# Altium integrated library Cypress Peripheral Bus Interface Controller.IntLib: 40 symbols (part 2 of 3)
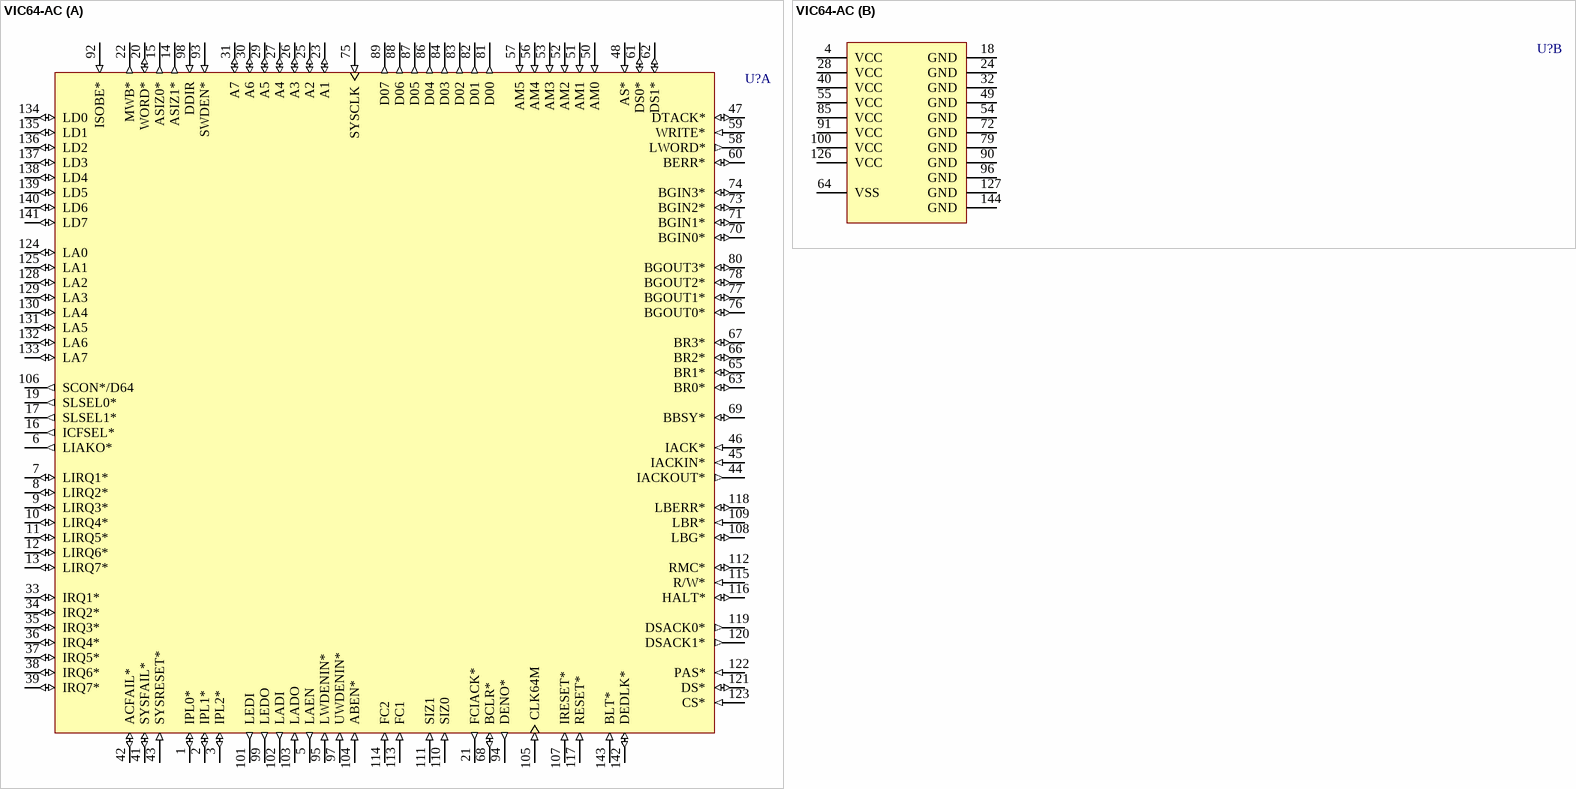
[diagram p20: symbol VIC64-AC]

## VIC64-AC
designator U?
VMEbus Interface Controller with D64 Functionality; Published: 11-Dec-2002; LatestRevisionDate: 13-Apr-2006; LatestRevisionNote: IPC-7351 Footprint Added.; DatasheetVersion: 22-Jul-1997; PackageVersion: Jul-1997; PackageReference: A144; Publisher: Altium Limited; PackageDescription: 144-Pin Thin Quad Flat Pack 0.5 mm Pitch; ComponentLink1Description: Manufacturer Link; ComponentLink1URL: http://www.cypress.com/
footprint A144_N (Thin QFP, 144-Leads, Body 20x20mm, Pitch 0.5mm, IPC Medium Density)
footprint A144_L (Thin QFP, 144-Leads, Body 20x20mm, Pitch 0.5mm, IPC High Density)
footprint A144_M (Thin QFP, 144-Leads, Body 20x20mm, Pitch 0.5mm, IPC Low Density)
3D model VIC64-A144 (144-Pin Thin Quad Flat Pack 0.5 mm Pitch)
part A pins: 1 IPL0* (io), 2 IPL1* (io), 3 IPL2* (io), 5 LAEN (out), 6 LIAKO* (out), 7 LIRQ1* (io), 8 LIRQ2* (io), 9 LIRQ3* (io), 10 LIRQ4* (io), 11 LIRQ5* (io), 12 LIRQ6* (io), 13 LIRQ7* (io), 14 ASIZ1* (out), 15 ASIZ0* (out), 16 ICFSEL* (out), 17 SLSEL1* (out), 19 SLSEL0* (out), 20 WORD* (io), 21 FCIACK* (out), 22 MWB* (out), 23 A1 (io), 25 A2 (io), 26 A3 (io), 27 A4 (io), 29 A5 (io), 30 A6 (io), 31 A7 (io), 33 IRQ1* (io), 34 IRQ2* (io), 35 IRQ3* (io), 36 IRQ4* (io), 37 IRQ5* (io), 38 IRQ6* (io), 39 IRQ7* (io), 41 SYSFAIL* (io), 42 ACFAIL* (io), 43 SYSRESET* (in), 44 IACKOUT* (out), 45 IACKIN* (in), 46 IACK* (in), 47 DTACK* (io), 48 AS* (in), 50 AM0 (in), 51 AM1 (in), 52 AM2 (in), 53 AM3 (in), 56 AM4 (in), 57 AM5 (in), 58 LWORD* (out), 59 WRITE* (in), 60 BERR* (io), 61 DS0* (io), 62 DS1* (io), 63 BR0* (io), 65 BR1* (io), 66 BR2* (io), 67 BR3* (io), 68 BCLR* (io), 69 BBSY* (io), 70 BGIN0* (io), 71 BGIN1* (io), 73 BGIN2* (io), 74 BGIN3* (io), 75 SYSCLK (in), 76 BGOUT0* (io), 77 BGOUT1* (io), 78 BGOUT2* (io), 80 BGOUT3* (io), 81 D00 (out), 82 D01 (out), 83 D02 (out), 84 D03 (out), 86 D04 (out), 87 D05 (out), 88 D06 (out), 89 D07 (out), 92 ISOBE* (in), 93 SWDEN* (in), 94 DENO* (out), 95 LWDENIN* (in), 97 UWDENIN* (in), 98 DDIR (in), 99 LEDO (out), 101 LEDI (out), 102 LADI (out), 103 LADO (in), 104 ABEN* (in), 105 CLK64M (in), 106 SCON*/D64 (out), 107 IRESET* (in), 108 LBG* (io), 109 LBR* (in), 110 SIZ0 (in), 111 SIZ1 (in), 112 RMC* (io), 113 FC1 (in), 114 FC2 (in), 115 R/W* (in), 116 HALT* (io), 117 RESET* (in), 118 LBERR* (io), 119 DSACK0* (out), 120 DSACK1* (out), 121 DS* (io), 122 PAS* (in), 123 CS* (in), 124 LA0 (io), 125 LA1 (io), 128 LA2 (io), 129 LA3 (io), 130 LA4 (io), 131 LA5 (io), 132 LA6 (io), 133 LA7 (io), 134 LD0 (io), 135 LD1 (io), 136 LD2 (io), 137 LD3 (io), 138 LD4 (io), 139 LD5 (io), 140 LD6 (io), 141 LD7 (io), 142 DEDLK* (io), 143 BLT* (in)
part B pins: 4 VCC (power), 18 GND (power), 24 GND (power), 28 VCC (power), 32 GND (power), 40 VCC (power), 49 GND (power), 54 GND (power), 55 VCC (power), 64 VSS (power), 72 GND (power), 79 GND (power), 85 VCC (power), 90 GND (power), 91 VCC (power), 96 GND (power), 100 VCC (power), 126 VCC (power), 127 GND (power), 144 GND (power)

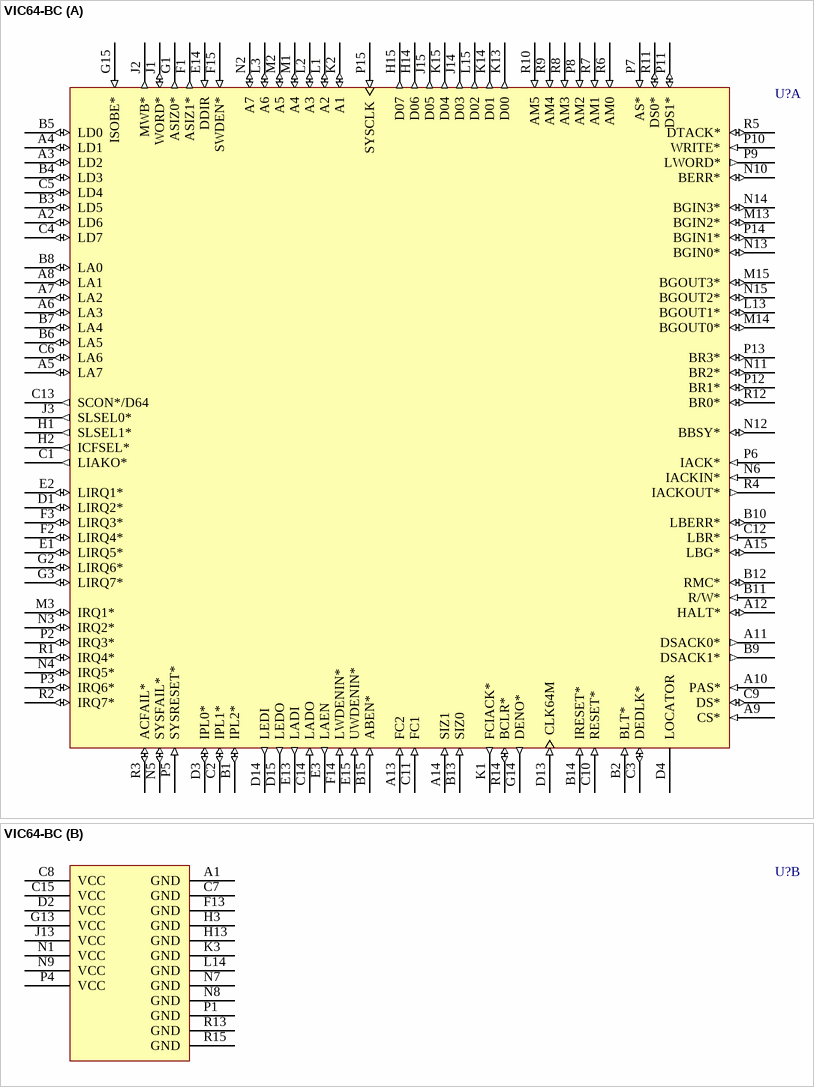
[diagram p7: symbol VIC64-BC]

## VIC64-BC
designator U?
VMEbus Interface Controller with D64 Functionality; Published: 11-Dec-2002; LatestRevisionDate: 04-Mar-2005; LatestRevisionNote: Stylized 3D Model Added.; DatasheetVersion: 22-Jul-1997; PackageVersion: Jul-1997; PackageReference: B144; Publisher: Altium Limited; PackageDescription: 145-Pin Pin Grid Array 2.54 mm Pitch; ComponentLink1Description: Manufacturer Link; ComponentLink1URL: http://www.cypress.com/
footprint B144 (PGA, 145-Leads, Body 38.8x38.8mm, Pitch 2.54mm)
3D model VIC64-B144 (145-Pin Pin Grid Array 2.54 mm Pitch)
part A pins: A2 LD6 (io), A3 LD2 (io), A4 LD1 (io), A5 LA7 (io), A6 LA3 (io), A7 LA2 (io), A8 LA1 (io), A9 CS* (in), A10 PAS* (in), A11 DSACK0* (out), A12 HALT* (io), A13 FC2 (in), A14 SIZ1 (in), A15 LBG* (io), B1 IPL2* (io), B2 BLT* (in), B3 LD5 (io), B4 LD3 (io), B5 LD0 (io), B6 LA5 (io), B7 LA4 (io), B8 LA0 (io), B9 DSACK1* (out), B10 LBERR* (io), B11 R/W* (in), B12 RMC* (io), B13 SIZ0 (in), B14 IRESET* (in), B15 ABEN* (in), C1 LIAKO* (out), C2 IPL1* (io), C3 DEDLK* (io), C4 LD7 (io), C5 LD4 (io), C6 LA6 (io), C9 DS* (io), C10 RESET* (in), C11 FC1 (in), C12 LBR* (in), C13 SCON*/D64 (out), C14 LADO (in), D1 LIRQ2* (io), D3 IPL0* (io), D4 LOCATOR, D13 CLK64M (in), D14 LEDI (out), D15 LEDO (out), E1 LIRQ5* (io), E2 LIRQ1* (io), E3 LAEN (out), E13 LADI (out), E14 DDIR (in), E15 UWDENIN* (in), F1 ASIZ1* (out), F2 LIRQ4* (io), F3 LIRQ3* (io), F14 LWDENIN* (in), F15 SWDEN* (in), G1 ASIZ0* (out), G2 LIRQ6* (io), G3 LIRQ7* (io), G14 DENO* (out), G15 ISOBE* (in), H1 SLSEL1* (out), H2 ICFSEL* (out), H14 D06 (out), H15 D07 (out), J1 WORD* (io), J2 MWB* (out), J3 SLSEL0* (out), J14 D03 (out), J15 D05 (out), K1 FCIACK* (out), K2 A1 (io), K13 D00 (out), K14 D01 (out), K15 D04 (out), L1 A2 (io), L2 A3 (io), L3 A6 (io), L13 BGOUT1* (io), L15 D02 (out), M1 A4 (io), M2 A5 (io), M3 IRQ1* (io), M13 BGIN2* (io), M14 BGOUT0* (io), M15 BGOUT3* (io), N2 A7 (io), N3 IRQ2* (io), N4 IRQ5* (io), N5 SYSFAIL* (io), N6 IACKIN* (in), N10 BERR* (io), N11 BR2* (io), N12 BBSY* (io), N13 BGIN0* (io), N14 BGIN3* (io), N15 BGOUT2* (io), P2 IRQ3* (io), P3 IRQ6* (io), P5 SYSRESET* (in), P6 IACK* (in), P7 AS* (in), P8 AM2 (in), P9 LWORD* (out), P10 WRITE* (in), P11 DS1* (io), P12 BR1* (io), P13 BR3* (io), P14 BGIN1* (io), P15 SYSCLK (in), R1 IRQ4* (io), R2 IRQ7* (io), R3 ACFAIL* (io), R4 IACKOUT* (out), R5 DTACK* (io), R6 AM0 (in), R7 AM1 (in), R8 AM3 (in), R9 AM4 (in), R10 AM5 (in), R11 DS0* (io), R12 BR0* (io), R14 BCLR* (io)
part B pins: A1 GND (power), C7 GND (power), C8 VCC (power), C15 VCC (power), D2 VCC (power), F13 GND (power), G13 VCC (power), H3 GND (power), H13 GND (power), J13 VCC (power), K3 GND (power), L14 GND (power), N1 VCC (power), N7 GND (power), N8 GND (power), N9 VCC (power), P1 GND (power), P4 VCC (power), R13 GND (power), R15 GND (power)

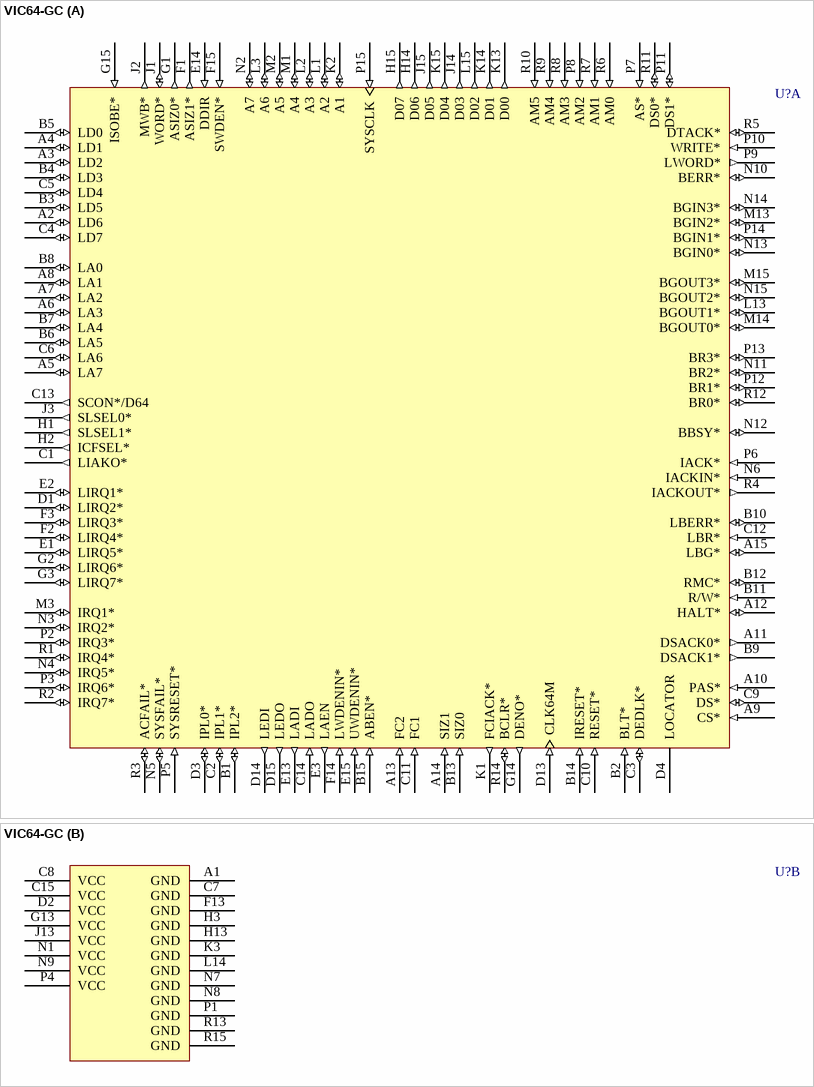
[diagram p8: symbol VIC64-GC]

## VIC64-GC
designator U?
VMEbus Interface Controller with D64 Functionality; Published: 11-Dec-2002; LatestRevisionDate: 04-Mar-2005; LatestRevisionNote: Stylized 3D Model Added.; DatasheetVersion: 22-Jul-1997; PackageVersion: Jul-1997; PackageReference: G145; Publisher: Altium Limited; PackageDescription: 145-Pin Pin Grid Array 2.54 mm Pitch; ComponentLink1Description: Manufacturer Link; ComponentLink1URL: http://www.cypress.com/
footprint G145 (PGA, 145-Leads, Body 40x40mm, Pitch 2.54mm)
3D model VIC64-G145 (145-Pin Pin Grid Array 2.54 mm Pitch)
part A pins: A2 LD6 (io), A3 LD2 (io), A4 LD1 (io), A5 LA7 (io), A6 LA3 (io), A7 LA2 (io), A8 LA1 (io), A9 CS* (in), A10 PAS* (in), A11 DSACK0* (out), A12 HALT* (io), A13 FC2 (in), A14 SIZ1 (in), A15 LBG* (io), B1 IPL2* (io), B2 BLT* (in), B3 LD5 (io), B4 LD3 (io), B5 LD0 (io), B6 LA5 (io), B7 LA4 (io), B8 LA0 (io), B9 DSACK1* (out), B10 LBERR* (io), B11 R/W* (in), B12 RMC* (io), B13 SIZ0 (in), B14 IRESET* (in), B15 ABEN* (in), C1 LIAKO* (out), C2 IPL1* (io), C3 DEDLK* (io), C4 LD7 (io), C5 LD4 (io), C6 LA6 (io), C9 DS* (io), C10 RESET* (in), C11 FC1 (in), C12 LBR* (in), C13 SCON*/D64 (out), C14 LADO (in), D1 LIRQ2* (io), D3 IPL0* (io), D4 LOCATOR, D13 CLK64M (in), D14 LEDI (out), D15 LEDO (out), E1 LIRQ5* (io), E2 LIRQ1* (io), E3 LAEN (out), E13 LADI (out), E14 DDIR (in), E15 UWDENIN* (in), F1 ASIZ1* (out), F2 LIRQ4* (io), F3 LIRQ3* (io), F14 LWDENIN* (in), F15 SWDEN* (in), G1 ASIZ0* (out), G2 LIRQ6* (io), G3 LIRQ7* (io), G14 DENO* (out), G15 ISOBE* (in), H1 SLSEL1* (out), H2 ICFSEL* (out), H14 D06 (out), H15 D07 (out), J1 WORD* (io), J2 MWB* (out), J3 SLSEL0* (out), J14 D03 (out), J15 D05 (out), K1 FCIACK* (out), K2 A1 (io), K13 D00 (out), K14 D01 (out), K15 D04 (out), L1 A2 (io), L2 A3 (io), L3 A6 (io), L13 BGOUT1* (io), L15 D02 (out), M1 A4 (io), M2 A5 (io), M3 IRQ1* (io), M13 BGIN2* (io), M14 BGOUT0* (io), M15 BGOUT3* (io), N2 A7 (io), N3 IRQ2* (io), N4 IRQ5* (io), N5 SYSFAIL* (io), N6 IACKIN* (in), N10 BERR* (io), N11 BR2* (io), N12 BBSY* (io), N13 BGIN0* (io), N14 BGIN3* (io), N15 BGOUT2* (io), P2 IRQ3* (io), P3 IRQ6* (io), P5 SYSRESET* (in), P6 IACK* (in), P7 AS* (in), P8 AM2 (in), P9 LWORD* (out), P10 WRITE* (in), P11 DS1* (io), P12 BR1* (io), P13 BR3* (io), P14 BGIN1* (io), P15 SYSCLK (in), R1 IRQ4* (io), R2 IRQ7* (io), R3 ACFAIL* (io), R4 IACKOUT* (out), R5 DTACK* (io), R6 AM0 (in), R7 AM1 (in), R8 AM3 (in), R9 AM4 (in), R10 AM5 (in), R11 DS0* (io), R12 BR0* (io), R14 BCLR* (io)
part B pins: A1 GND (power), C7 GND (power), C8 VCC (power), C15 VCC (power), D2 VCC (power), F13 GND (power), G13 VCC (power), H3 GND (power), H13 GND (power), J13 VCC (power), K3 GND (power), L14 GND (power), N1 VCC (power), N7 GND (power), N8 GND (power), N9 VCC (power), P1 GND (power), P4 VCC (power), R13 GND (power), R15 GND (power)

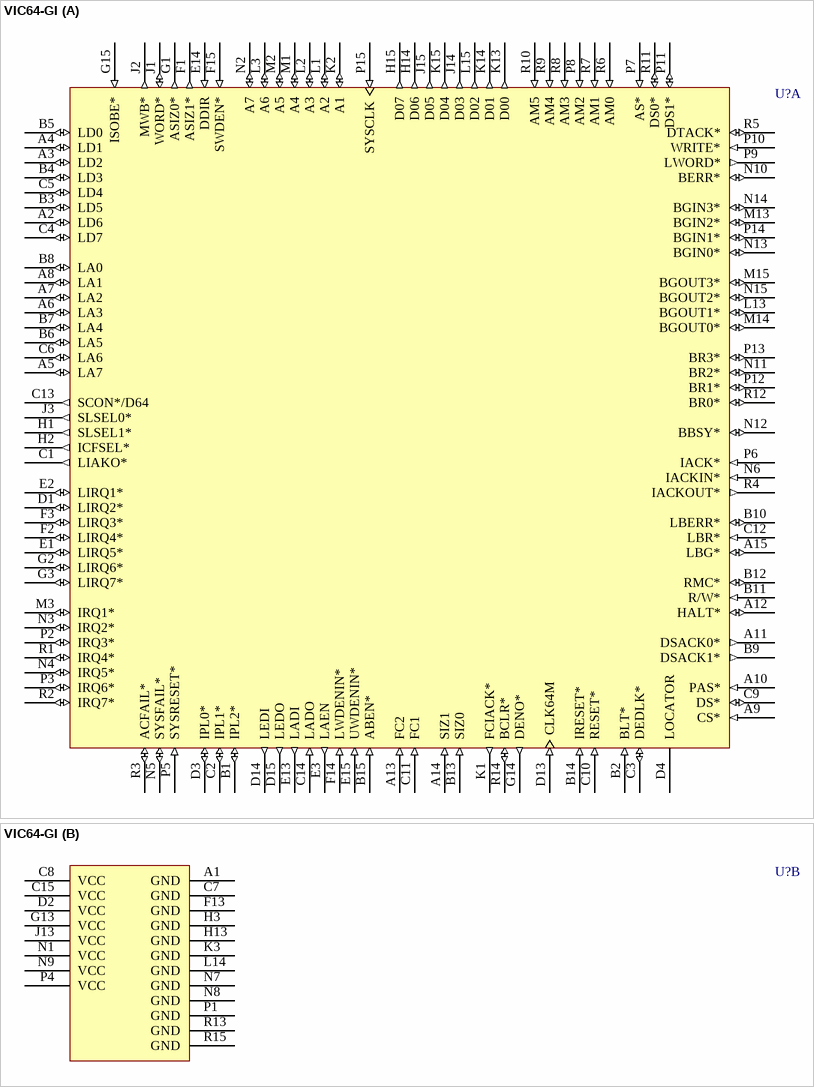
[diagram p9: symbol VIC64-GI]

## VIC64-GI
designator U?
VMEbus Interface Controller with D64 Functionality; Published: 11-Dec-2002; LatestRevisionDate: 04-Mar-2005; LatestRevisionNote: Stylized 3D Model Added.; DatasheetVersion: 22-Jul-1997; PackageVersion: Jul-1997; PackageReference: G145; Publisher: Altium Limited; PackageDescription: 145-Pin Pin Grid Array 2.54 mm Pitch; ComponentLink1Description: Manufacturer Link; ComponentLink1URL: http://www.cypress.com/
footprint G145 (PGA, 145-Leads, Body 40x40mm, Pitch 2.54mm)
3D model VIC64-G145 (145-Pin Pin Grid Array 2.54 mm Pitch)
part A pins: A2 LD6 (io), A3 LD2 (io), A4 LD1 (io), A5 LA7 (io), A6 LA3 (io), A7 LA2 (io), A8 LA1 (io), A9 CS* (in), A10 PAS* (in), A11 DSACK0* (out), A12 HALT* (io), A13 FC2 (in), A14 SIZ1 (in), A15 LBG* (io), B1 IPL2* (io), B2 BLT* (in), B3 LD5 (io), B4 LD3 (io), B5 LD0 (io), B6 LA5 (io), B7 LA4 (io), B8 LA0 (io), B9 DSACK1* (out), B10 LBERR* (io), B11 R/W* (in), B12 RMC* (io), B13 SIZ0 (in), B14 IRESET* (in), B15 ABEN* (in), C1 LIAKO* (out), C2 IPL1* (io), C3 DEDLK* (io), C4 LD7 (io), C5 LD4 (io), C6 LA6 (io), C9 DS* (io), C10 RESET* (in), C11 FC1 (in), C12 LBR* (in), C13 SCON*/D64 (out), C14 LADO (in), D1 LIRQ2* (io), D3 IPL0* (io), D4 LOCATOR, D13 CLK64M (in), D14 LEDI (out), D15 LEDO (out), E1 LIRQ5* (io), E2 LIRQ1* (io), E3 LAEN (out), E13 LADI (out), E14 DDIR (in), E15 UWDENIN* (in), F1 ASIZ1* (out), F2 LIRQ4* (io), F3 LIRQ3* (io), F14 LWDENIN* (in), F15 SWDEN* (in), G1 ASIZ0* (out), G2 LIRQ6* (io), G3 LIRQ7* (io), G14 DENO* (out), G15 ISOBE* (in), H1 SLSEL1* (out), H2 ICFSEL* (out), H14 D06 (out), H15 D07 (out), J1 WORD* (io), J2 MWB* (out), J3 SLSEL0* (out), J14 D03 (out), J15 D05 (out), K1 FCIACK* (out), K2 A1 (io), K13 D00 (out), K14 D01 (out), K15 D04 (out), L1 A2 (io), L2 A3 (io), L3 A6 (io), L13 BGOUT1* (io), L15 D02 (out), M1 A4 (io), M2 A5 (io), M3 IRQ1* (io), M13 BGIN2* (io), M14 BGOUT0* (io), M15 BGOUT3* (io), N2 A7 (io), N3 IRQ2* (io), N4 IRQ5* (io), N5 SYSFAIL* (io), N6 IACKIN* (in), N10 BERR* (io), N11 BR2* (io), N12 BBSY* (io), N13 BGIN0* (io), N14 BGIN3* (io), N15 BGOUT2* (io), P2 IRQ3* (io), P3 IRQ6* (io), P5 SYSRESET* (in), P6 IACK* (in), P7 AS* (in), P8 AM2 (in), P9 LWORD* (out), P10 WRITE* (in), P11 DS1* (io), P12 BR1* (io), P13 BR3* (io), P14 BGIN1* (io), P15 SYSCLK (in), R1 IRQ4* (io), R2 IRQ7* (io), R3 ACFAIL* (io), R4 IACKOUT* (out), R5 DTACK* (io), R6 AM0 (in), R7 AM1 (in), R8 AM3 (in), R9 AM4 (in), R10 AM5 (in), R11 DS0* (io), R12 BR0* (io), R14 BCLR* (io)
part B pins: A1 GND (power), C7 GND (power), C8 VCC (power), C15 VCC (power), D2 VCC (power), F13 GND (power), G13 VCC (power), H3 GND (power), H13 GND (power), J13 VCC (power), K3 GND (power), L14 GND (power), N1 VCC (power), N7 GND (power), N8 GND (power), N9 VCC (power), P1 GND (power), P4 VCC (power), R13 GND (power), R15 GND (power)

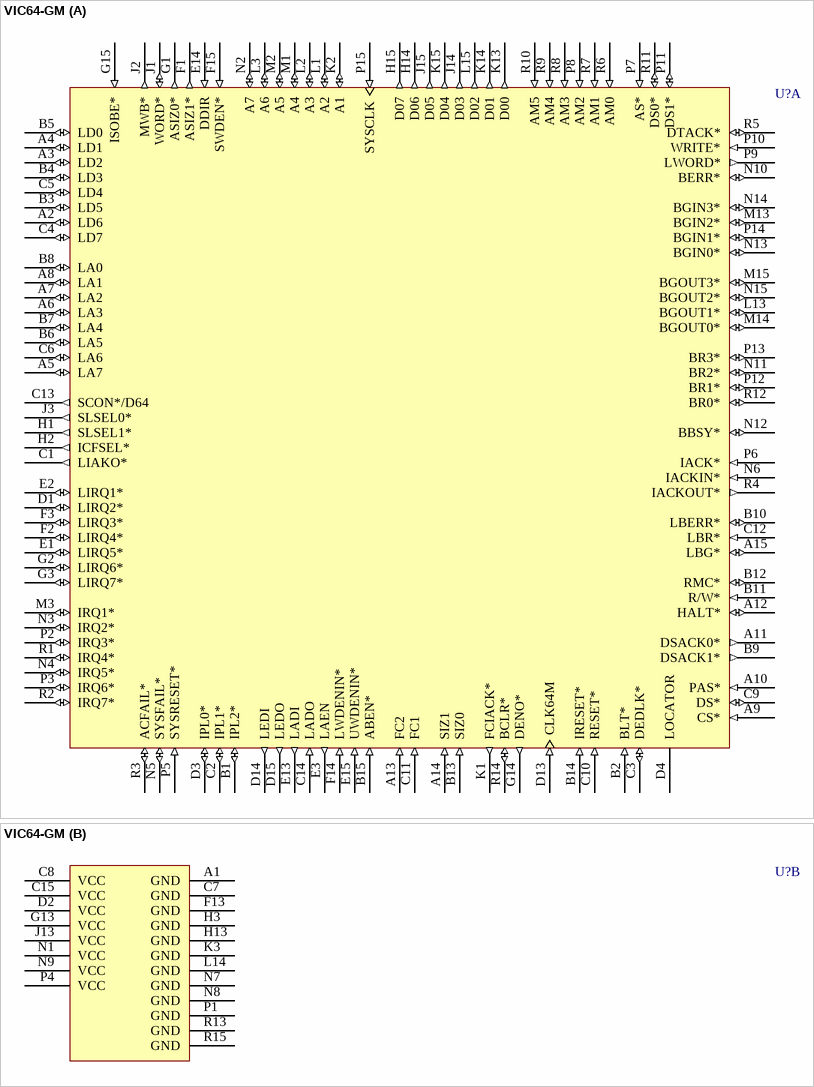
[diagram p10: symbol VIC64-GM]

## VIC64-GM
designator U?
VMEbus Interface Controller with D64 Functionality; Published: 11-Dec-2002; LatestRevisionDate: 04-Mar-2005; LatestRevisionNote: Stylized 3D Model Added.; DatasheetVersion: 22-Jul-1997; PackageVersion: Jul-1997; PackageReference: G145; Publisher: Altium Limited; PackageDescription: 145-Pin Pin Grid Array 2.54 mm Pitch; ComponentLink1Description: Manufacturer Link; ComponentLink1URL: http://www.cypress.com/
footprint G145 (PGA, 145-Leads, Body 40x40mm, Pitch 2.54mm)
3D model VIC64-G145 (145-Pin Pin Grid Array 2.54 mm Pitch)
part A pins: A2 LD6 (io), A3 LD2 (io), A4 LD1 (io), A5 LA7 (io), A6 LA3 (io), A7 LA2 (io), A8 LA1 (io), A9 CS* (in), A10 PAS* (in), A11 DSACK0* (out), A12 HALT* (io), A13 FC2 (in), A14 SIZ1 (in), A15 LBG* (io), B1 IPL2* (io), B2 BLT* (in), B3 LD5 (io), B4 LD3 (io), B5 LD0 (io), B6 LA5 (io), B7 LA4 (io), B8 LA0 (io), B9 DSACK1* (out), B10 LBERR* (io), B11 R/W* (in), B12 RMC* (io), B13 SIZ0 (in), B14 IRESET* (in), B15 ABEN* (in), C1 LIAKO* (out), C2 IPL1* (io), C3 DEDLK* (io), C4 LD7 (io), C5 LD4 (io), C6 LA6 (io), C9 DS* (io), C10 RESET* (in), C11 FC1 (in), C12 LBR* (in), C13 SCON*/D64 (out), C14 LADO (in), D1 LIRQ2* (io), D3 IPL0* (io), D4 LOCATOR, D13 CLK64M (in), D14 LEDI (out), D15 LEDO (out), E1 LIRQ5* (io), E2 LIRQ1* (io), E3 LAEN (out), E13 LADI (out), E14 DDIR (in), E15 UWDENIN* (in), F1 ASIZ1* (out), F2 LIRQ4* (io), F3 LIRQ3* (io), F14 LWDENIN* (in), F15 SWDEN* (in), G1 ASIZ0* (out), G2 LIRQ6* (io), G3 LIRQ7* (io), G14 DENO* (out), G15 ISOBE* (in), H1 SLSEL1* (out), H2 ICFSEL* (out), H14 D06 (out), H15 D07 (out), J1 WORD* (io), J2 MWB* (out), J3 SLSEL0* (out), J14 D03 (out), J15 D05 (out), K1 FCIACK* (out), K2 A1 (io), K13 D00 (out), K14 D01 (out), K15 D04 (out), L1 A2 (io), L2 A3 (io), L3 A6 (io), L13 BGOUT1* (io), L15 D02 (out), M1 A4 (io), M2 A5 (io), M3 IRQ1* (io), M13 BGIN2* (io), M14 BGOUT0* (io), M15 BGOUT3* (io), N2 A7 (io), N3 IRQ2* (io), N4 IRQ5* (io), N5 SYSFAIL* (io), N6 IACKIN* (in), N10 BERR* (io), N11 BR2* (io), N12 BBSY* (io), N13 BGIN0* (io), N14 BGIN3* (io), N15 BGOUT2* (io), P2 IRQ3* (io), P3 IRQ6* (io), P5 SYSRESET* (in), P6 IACK* (in), P7 AS* (in), P8 AM2 (in), P9 LWORD* (out), P10 WRITE* (in), P11 DS1* (io), P12 BR1* (io), P13 BR3* (io), P14 BGIN1* (io), P15 SYSCLK (in), R1 IRQ4* (io), R2 IRQ7* (io), R3 ACFAIL* (io), R4 IACKOUT* (out), R5 DTACK* (io), R6 AM0 (in), R7 AM1 (in), R8 AM3 (in), R9 AM4 (in), R10 AM5 (in), R11 DS0* (io), R12 BR0* (io), R14 BCLR* (io)
part B pins: A1 GND (power), C7 GND (power), C8 VCC (power), C15 VCC (power), D2 VCC (power), F13 GND (power), G13 VCC (power), H3 GND (power), H13 GND (power), J13 VCC (power), K3 GND (power), L14 GND (power), N1 VCC (power), N7 GND (power), N8 GND (power), N9 VCC (power), P1 GND (power), P4 VCC (power), R13 GND (power), R15 GND (power)

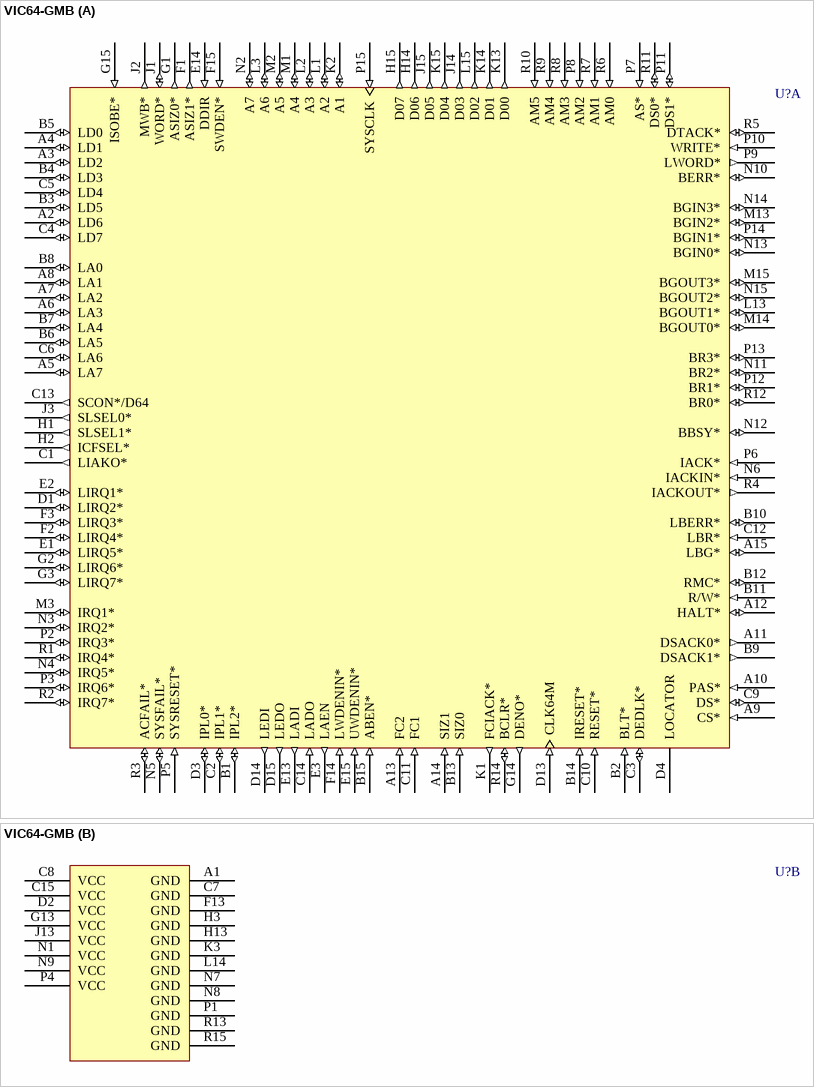
[diagram p11: symbol VIC64-GMB]

## VIC64-GMB
designator U?
VMEbus Interface Controller with D64 Functionality; Published: 11-Dec-2002; LatestRevisionDate: 04-Mar-2005; LatestRevisionNote: Stylized 3D Model Added.; DatasheetVersion: 22-Jul-1997; PackageVersion: Jul-1997; PackageReference: G145; Publisher: Altium Limited; PackageDescription: 145-Pin Pin Grid Array 2.54 mm Pitch; ComponentLink1Description: Manufacturer Link; ComponentLink1URL: http://www.cypress.com/
footprint G145 (PGA, 145-Leads, Body 40x40mm, Pitch 2.54mm)
3D model VIC64-G145 (145-Pin Pin Grid Array 2.54 mm Pitch)
part A pins: A2 LD6 (io), A3 LD2 (io), A4 LD1 (io), A5 LA7 (io), A6 LA3 (io), A7 LA2 (io), A8 LA1 (io), A9 CS* (in), A10 PAS* (in), A11 DSACK0* (out), A12 HALT* (io), A13 FC2 (in), A14 SIZ1 (in), A15 LBG* (io), B1 IPL2* (io), B2 BLT* (in), B3 LD5 (io), B4 LD3 (io), B5 LD0 (io), B6 LA5 (io), B7 LA4 (io), B8 LA0 (io), B9 DSACK1* (out), B10 LBERR* (io), B11 R/W* (in), B12 RMC* (io), B13 SIZ0 (in), B14 IRESET* (in), B15 ABEN* (in), C1 LIAKO* (out), C2 IPL1* (io), C3 DEDLK* (io), C4 LD7 (io), C5 LD4 (io), C6 LA6 (io), C9 DS* (io), C10 RESET* (in), C11 FC1 (in), C12 LBR* (in), C13 SCON*/D64 (out), C14 LADO (in), D1 LIRQ2* (io), D3 IPL0* (io), D4 LOCATOR, D13 CLK64M (in), D14 LEDI (out), D15 LEDO (out), E1 LIRQ5* (io), E2 LIRQ1* (io), E3 LAEN (out), E13 LADI (out), E14 DDIR (in), E15 UWDENIN* (in), F1 ASIZ1* (out), F2 LIRQ4* (io), F3 LIRQ3* (io), F14 LWDENIN* (in), F15 SWDEN* (in), G1 ASIZ0* (out), G2 LIRQ6* (io), G3 LIRQ7* (io), G14 DENO* (out), G15 ISOBE* (in), H1 SLSEL1* (out), H2 ICFSEL* (out), H14 D06 (out), H15 D07 (out), J1 WORD* (io), J2 MWB* (out), J3 SLSEL0* (out), J14 D03 (out), J15 D05 (out), K1 FCIACK* (out), K2 A1 (io), K13 D00 (out), K14 D01 (out), K15 D04 (out), L1 A2 (io), L2 A3 (io), L3 A6 (io), L13 BGOUT1* (io), L15 D02 (out), M1 A4 (io), M2 A5 (io), M3 IRQ1* (io), M13 BGIN2* (io), M14 BGOUT0* (io), M15 BGOUT3* (io), N2 A7 (io), N3 IRQ2* (io), N4 IRQ5* (io), N5 SYSFAIL* (io), N6 IACKIN* (in), N10 BERR* (io), N11 BR2* (io), N12 BBSY* (io), N13 BGIN0* (io), N14 BGIN3* (io), N15 BGOUT2* (io), P2 IRQ3* (io), P3 IRQ6* (io), P5 SYSRESET* (in), P6 IACK* (in), P7 AS* (in), P8 AM2 (in), P9 LWORD* (out), P10 WRITE* (in), P11 DS1* (io), P12 BR1* (io), P13 BR3* (io), P14 BGIN1* (io), P15 SYSCLK (in), R1 IRQ4* (io), R2 IRQ7* (io), R3 ACFAIL* (io), R4 IACKOUT* (out), R5 DTACK* (io), R6 AM0 (in), R7 AM1 (in), R8 AM3 (in), R9 AM4 (in), R10 AM5 (in), R11 DS0* (io), R12 BR0* (io), R14 BCLR* (io)
part B pins: A1 GND (power), C7 GND (power), C8 VCC (power), C15 VCC (power), D2 VCC (power), F13 GND (power), G13 VCC (power), H3 GND (power), H13 GND (power), J13 VCC (power), K3 GND (power), L14 GND (power), N1 VCC (power), N7 GND (power), N8 GND (power), N9 VCC (power), P1 GND (power), P4 VCC (power), R13 GND (power), R15 GND (power)

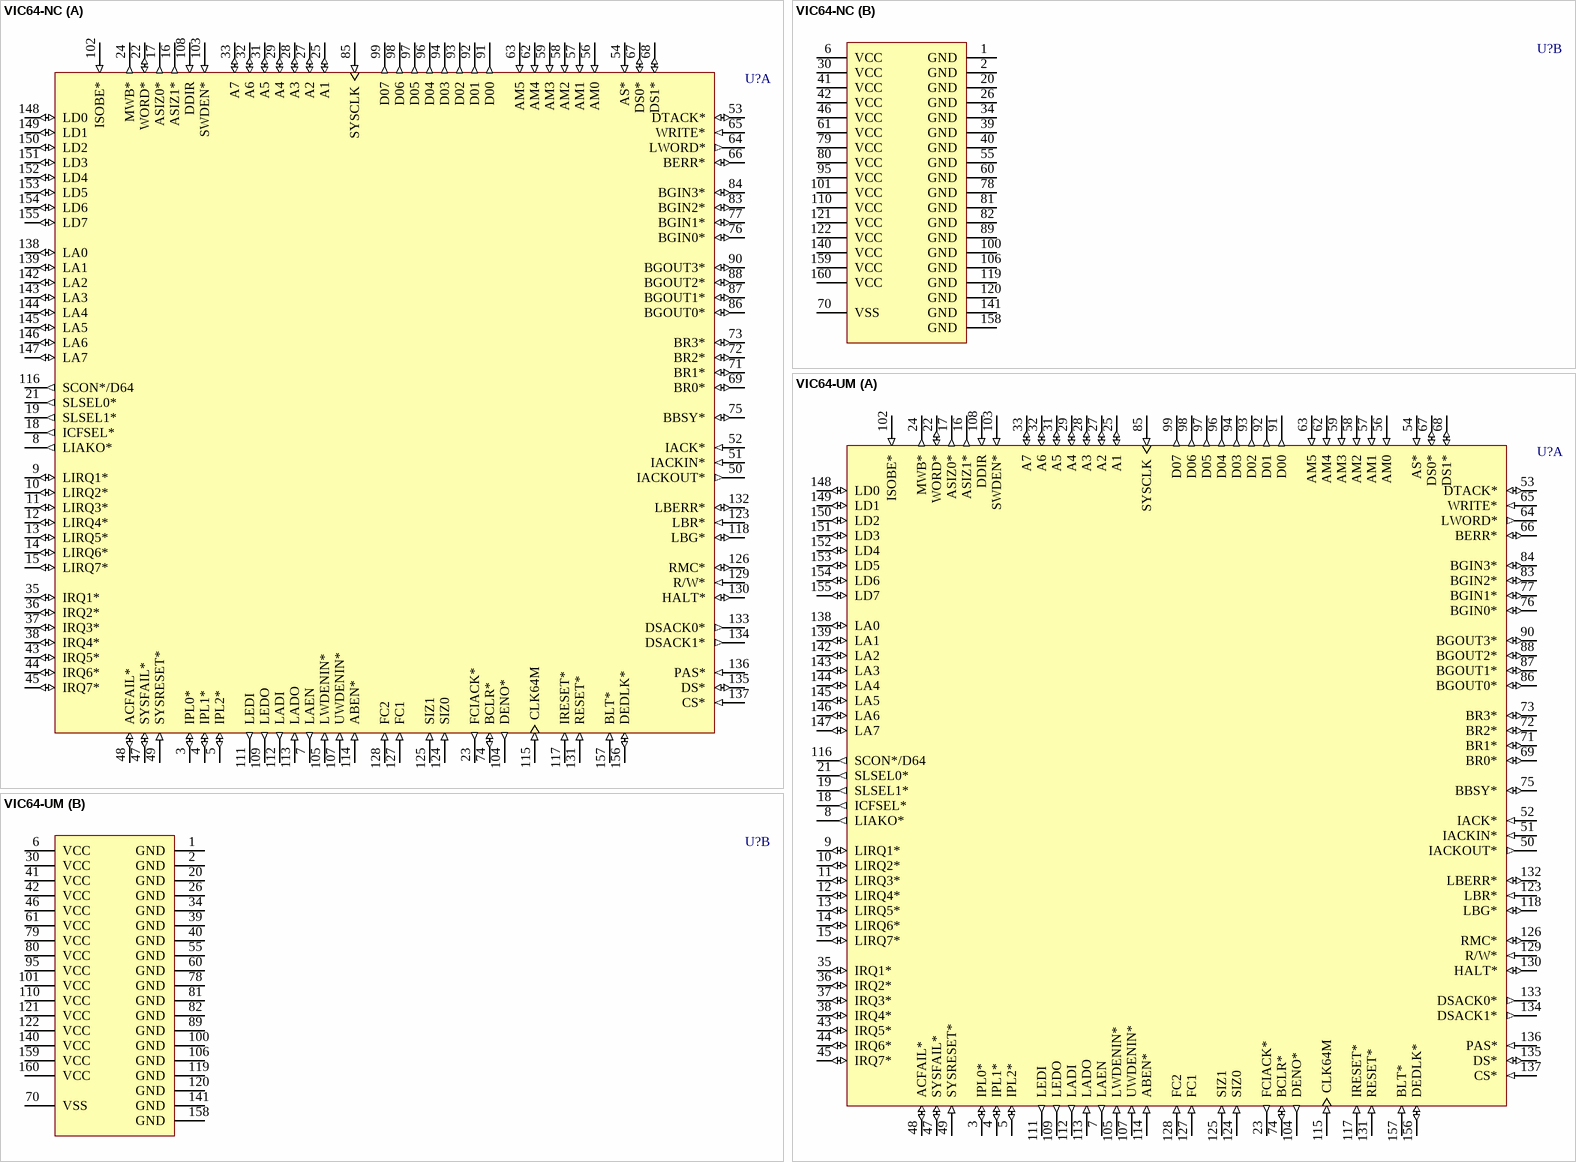
[diagram p12: symbols VIC64-NC to VIC64-UM]

## VIC64-NC
designator U?
VMEbus Interface Controller with D64 Functionality; Published: 11-Dec-2002; LatestRevisionDate: 13-Apr-2006; LatestRevisionNote: IPC-7351 Footprint Added.; DatasheetVersion: 22-Jul-1997; PackageVersion: Mar-2001; PackageReference: N160; Publisher: Altium Limited; PackageDescription: 160-Pin Plastic Quad Flat Pack 0.65 mm Pitch; Code_IPC: QFP65P3120X3120-160; ComponentLink1Description: Manufacturer Link; ComponentLink1URL: http://www.cypress.com/
footprint N160_N (QFP, 160-Leads, Body 28 x 28mm, Pitch 0.65mm, IPC Medium Density)
footprint N160_L (QFP, 160-Leads, Body 28 x 28mm, Pitch 0.65mm, IPC High Density)
footprint N160_M (QFP, 160-Leads, Body 28 x 28mm, Pitch 0.65mm, IPC Low Density)
3D model VIC64-N160 (160-Pin Plastic Quad Flat Pack 0.65 mm Pitch)
part A pins: 3 IPL0* (io), 4 IPL1* (io), 5 IPL2* (io), 7 LAEN (out), 8 LIAKO* (out), 9 LIRQ1* (io), 10 LIRQ2* (io), 11 LIRQ3* (io), 12 LIRQ4* (io), 13 LIRQ5* (io), 14 LIRQ6* (io), 15 LIRQ7* (io), 16 ASIZ1* (out), 17 ASIZ0* (out), 18 ICFSEL* (out), 19 SLSEL1* (out), 21 SLSEL0* (out), 22 WORD* (io), 23 FCIACK* (out), 24 MWB* (out), 25 A1 (io), 27 A2 (io), 28 A3 (io), 29 A4 (io), 31 A5 (io), 32 A6 (io), 33 A7 (io), 35 IRQ1* (io), 36 IRQ2* (io), 37 IRQ3* (io), 38 IRQ4* (io), 43 IRQ5* (io), 44 IRQ6* (io), 45 IRQ7* (io), 47 SYSFAIL* (io), 48 ACFAIL* (io), 49 SYSRESET* (in), 50 IACKOUT* (out), 51 IACKIN* (in), 52 IACK* (in), 53 DTACK* (io), 54 AS* (in), 56 AM0 (in), 57 AM1 (in), 58 AM2 (in), 59 AM3 (in), 62 AM4 (in), 63 AM5 (in), 64 LWORD* (out), 65 WRITE* (in), 66 BERR* (io), 67 DS0* (io), 68 DS1* (io), 69 BR0* (io), 71 BR1* (io), 72 BR2* (io), 73 BR3* (io), 74 BCLR* (io), 75 BBSY* (io), 76 BGIN0* (io), 77 BGIN1* (io), 83 BGIN2* (io), 84 BGIN3* (io), 85 SYSCLK (in), 86 BGOUT0* (io), 87 BGOUT1* (io), 88 BGOUT2* (io), 90 BGOUT3* (io), 91 D00 (out), 92 D01 (out), 93 D02 (out), 94 D03 (out), 96 D04 (out), 97 D05 (out), 98 D06 (out), 99 D07 (out), 102 ISOBE* (in), 103 SWDEN* (in), 104 DENO* (out), 105 LWDENIN* (in), 107 UWDENIN* (in), 108 DDIR (in), 109 LEDO (out), 111 LEDI (out), 112 LADI (out), 113 LADO (in), 114 ABEN* (in), 115 CLK64M (in), 116 SCON*/D64 (out), 117 IRESET* (in), 118 LBG* (io), 123 LBR* (in), 124 SIZ0 (in), 125 SIZ1 (in), 126 RMC* (io), 127 FC1 (in), 128 FC2 (in), 129 R/W* (in), 130 HALT* (io), 131 RESET* (in), 132 LBERR* (io), 133 DSACK0* (out), 134 DSACK1* (out), 135 DS* (io), 136 PAS* (in), 137 CS* (in), 138 LA0 (io), 139 LA1 (io), 142 LA2 (io), 143 LA3 (io), 144 LA4 (io), 145 LA5 (io), 146 LA6 (io), 147 LA7 (io), 148 LD0 (io), 149 LD1 (io), 150 LD2 (io), 151 LD3 (io), 152 LD4 (io), 153 LD5 (io), 154 LD6 (io), 155 LD7 (io), 156 DEDLK* (io), 157 BLT* (in)
part B pins: 1 GND (power), 2 GND (power), 6 VCC (power), 20 GND (power), 26 GND (power), 30 VCC (power), 34 GND (power), 39 GND (power), 40 GND (power), 41 VCC (power), 42 VCC (power), 46 VCC (power), 55 GND (power), 60 GND (power), 61 VCC (power), 70 VSS (power), 78 GND (power), 79 VCC (power), 80 VCC (power), 81 GND (power), 82 GND (power), 89 GND (power), 95 VCC (power), 100 GND (power), 101 VCC (power), 106 GND (power), 110 VCC (power), 119 GND (power), 120 GND (power), 121 VCC (power), 122 VCC (power), 140 VCC (power), 141 GND (power), 158 GND (power), 159 VCC (power), 160 VCC (power)

## VIC64-UM
designator U?
VMEbus Interface Controller with D64 Functionality; Published: 11-Dec-2002; LatestRevisionDate: 13-Apr-2006; LatestRevisionNote: IPC-7351 Footprint Added.; DatasheetVersion: 22-Jul-1997; PackageVersion: Dec-2000; PackageReference: U162; Publisher: Altium Limited; PackageDescription: 160-Pin Ceramic Cavity Up Quad Flat Pack 0.65 mm Pitch; ComponentLink1Description: Manufacturer Link; ComponentLink1URL: http://www.cypress.com/
footprint U162_N (QFP, 160-Leads, Body 28 x 28mm, Pitch 0.65mm, IPC Medium Density)
footprint U162_L (QFP, 160-Leads, Body 28 x 28mm, Pitch 0.65mm, IPC High Density)
footprint U162_M (QFP, 160-Leads, Body 28 x 28mm, Pitch 0.65mm, IPC Low Density)
3D model VIC64-U162 (160-Pin Ceramic Cavity Up Quad Flat Pack 0.65 mm Pitch)
part A pins: 3 IPL0* (io), 4 IPL1* (io), 5 IPL2* (io), 7 LAEN (out), 8 LIAKO* (out), 9 LIRQ1* (io), 10 LIRQ2* (io), 11 LIRQ3* (io), 12 LIRQ4* (io), 13 LIRQ5* (io), 14 LIRQ6* (io), 15 LIRQ7* (io), 16 ASIZ1* (out), 17 ASIZ0* (out), 18 ICFSEL* (out), 19 SLSEL1* (out), 21 SLSEL0* (out), 22 WORD* (io), 23 FCIACK* (out), 24 MWB* (out), 25 A1 (io), 27 A2 (io), 28 A3 (io), 29 A4 (io), 31 A5 (io), 32 A6 (io), 33 A7 (io), 35 IRQ1* (io), 36 IRQ2* (io), 37 IRQ3* (io), 38 IRQ4* (io), 43 IRQ5* (io), 44 IRQ6* (io), 45 IRQ7* (io), 47 SYSFAIL* (io), 48 ACFAIL* (io), 49 SYSRESET* (in), 50 IACKOUT* (out), 51 IACKIN* (in), 52 IACK* (in), 53 DTACK* (io), 54 AS* (in), 56 AM0 (in), 57 AM1 (in), 58 AM2 (in), 59 AM3 (in), 62 AM4 (in), 63 AM5 (in), 64 LWORD* (out), 65 WRITE* (in), 66 BERR* (io), 67 DS0* (io), 68 DS1* (io), 69 BR0* (io), 71 BR1* (io), 72 BR2* (io), 73 BR3* (io), 74 BCLR* (io), 75 BBSY* (io), 76 BGIN0* (io), 77 BGIN1* (io), 83 BGIN2* (io), 84 BGIN3* (io), 85 SYSCLK (in), 86 BGOUT0* (io), 87 BGOUT1* (io), 88 BGOUT2* (io), 90 BGOUT3* (io), 91 D00 (out), 92 D01 (out), 93 D02 (out), 94 D03 (out), 96 D04 (out), 97 D05 (out), 98 D06 (out), 99 D07 (out), 102 ISOBE* (in), 103 SWDEN* (in), 104 DENO* (out), 105 LWDENIN* (in), 107 UWDENIN* (in), 108 DDIR (in), 109 LEDO (out), 111 LEDI (out), 112 LADI (out), 113 LADO (in), 114 ABEN* (in), 115 CLK64M (in), 116 SCON*/D64 (out), 117 IRESET* (in), 118 LBG* (io), 123 LBR* (in), 124 SIZ0 (in), 125 SIZ1 (in), 126 RMC* (io), 127 FC1 (in), 128 FC2 (in), 129 R/W* (in), 130 HALT* (io), 131 RESET* (in), 132 LBERR* (io), 133 DSACK0* (out), 134 DSACK1* (out), 135 DS* (io), 136 PAS* (in), 137 CS* (in), 138 LA0 (io), 139 LA1 (io), 142 LA2 (io), 143 LA3 (io), 144 LA4 (io), 145 LA5 (io), 146 LA6 (io), 147 LA7 (io), 148 LD0 (io), 149 LD1 (io), 150 LD2 (io), 151 LD3 (io), 152 LD4 (io), 153 LD5 (io), 154 LD6 (io), 155 LD7 (io), 156 DEDLK* (io), 157 BLT* (in)
part B pins: 1 GND (power), 2 GND (power), 6 VCC (power), 20 GND (power), 26 GND (power), 30 VCC (power), 34 GND (power), 39 GND (power), 40 GND (power), 41 VCC (power), 42 VCC (power), 46 VCC (power), 55 GND (power), 60 GND (power), 61 VCC (power), 70 VSS (power), 78 GND (power), 79 VCC (power), 80 VCC (power), 81 GND (power), 82 GND (power), 89 GND (power), 95 VCC (power), 100 GND (power), 101 VCC (power), 106 GND (power), 110 VCC (power), 119 GND (power), 120 GND (power), 121 VCC (power), 122 VCC (power), 140 VCC (power), 141 GND (power), 158 GND (power), 159 VCC (power), 160 VCC (power)

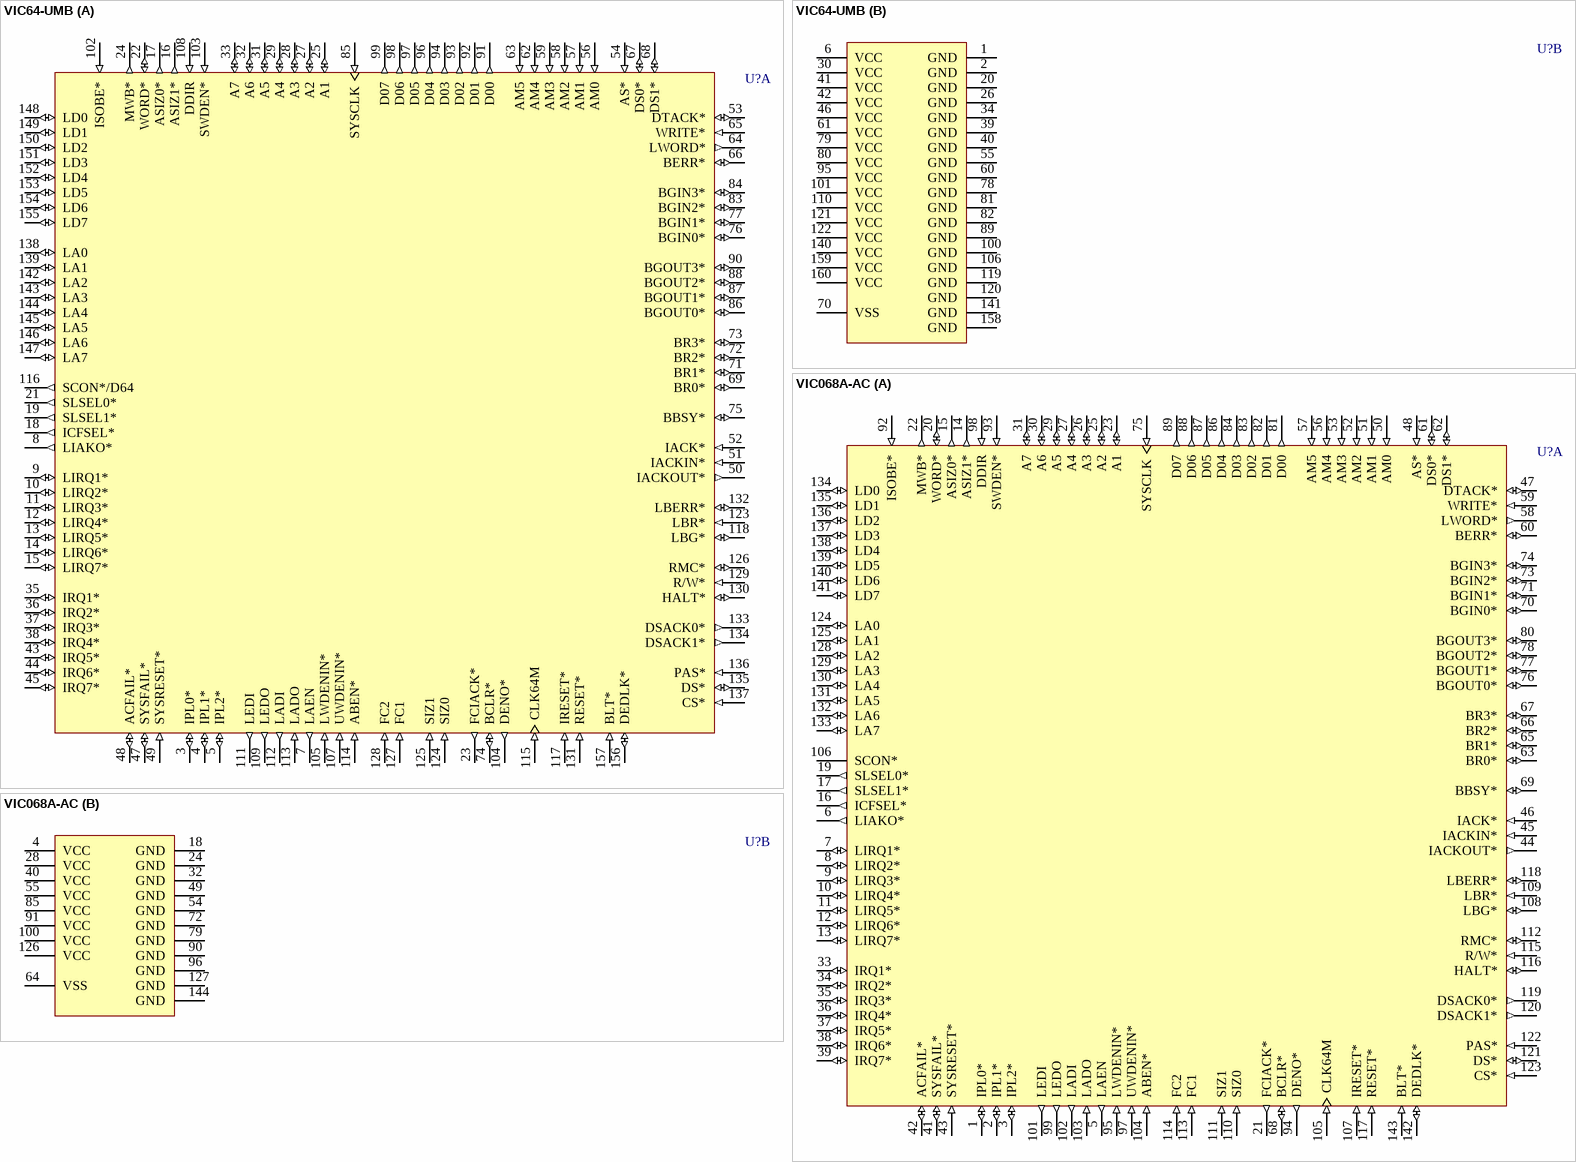
[diagram p13: symbols VIC64-UMB to VIC068A-AC]

## VIC64-UMB
designator U?
VMEbus Interface Controller with D64 Functionality; Published: 11-Dec-2002; LatestRevisionDate: 13-Apr-2006; LatestRevisionNote: IPC-7351 Footprint Added.; DatasheetVersion: 22-Jul-1997; PackageVersion: Dec-2000; PackageReference: U162; Publisher: Altium Limited; PackageDescription: 160-Pin Ceramic Cavity Up Quad Flat Pack 0.65 mm Pitch; ComponentLink1Description: Manufacturer Link; ComponentLink1URL: http://www.cypress.com/
footprint U162_N (QFP, 160-Leads, Body 28 x 28mm, Pitch 0.65mm, IPC Medium Density)
footprint U162_L (QFP, 160-Leads, Body 28 x 28mm, Pitch 0.65mm, IPC High Density)
footprint U162_M (QFP, 160-Leads, Body 28 x 28mm, Pitch 0.65mm, IPC Low Density)
3D model VIC64-U162 (160-Pin Ceramic Cavity Up Quad Flat Pack 0.65 mm Pitch)
part A pins: 3 IPL0* (io), 4 IPL1* (io), 5 IPL2* (io), 7 LAEN (out), 8 LIAKO* (out), 9 LIRQ1* (io), 10 LIRQ2* (io), 11 LIRQ3* (io), 12 LIRQ4* (io), 13 LIRQ5* (io), 14 LIRQ6* (io), 15 LIRQ7* (io), 16 ASIZ1* (out), 17 ASIZ0* (out), 18 ICFSEL* (out), 19 SLSEL1* (out), 21 SLSEL0* (out), 22 WORD* (io), 23 FCIACK* (out), 24 MWB* (out), 25 A1 (io), 27 A2 (io), 28 A3 (io), 29 A4 (io), 31 A5 (io), 32 A6 (io), 33 A7 (io), 35 IRQ1* (io), 36 IRQ2* (io), 37 IRQ3* (io), 38 IRQ4* (io), 43 IRQ5* (io), 44 IRQ6* (io), 45 IRQ7* (io), 47 SYSFAIL* (io), 48 ACFAIL* (io), 49 SYSRESET* (in), 50 IACKOUT* (out), 51 IACKIN* (in), 52 IACK* (in), 53 DTACK* (io), 54 AS* (in), 56 AM0 (in), 57 AM1 (in), 58 AM2 (in), 59 AM3 (in), 62 AM4 (in), 63 AM5 (in), 64 LWORD* (out), 65 WRITE* (in), 66 BERR* (io), 67 DS0* (io), 68 DS1* (io), 69 BR0* (io), 71 BR1* (io), 72 BR2* (io), 73 BR3* (io), 74 BCLR* (io), 75 BBSY* (io), 76 BGIN0* (io), 77 BGIN1* (io), 83 BGIN2* (io), 84 BGIN3* (io), 85 SYSCLK (in), 86 BGOUT0* (io), 87 BGOUT1* (io), 88 BGOUT2* (io), 90 BGOUT3* (io), 91 D00 (out), 92 D01 (out), 93 D02 (out), 94 D03 (out), 96 D04 (out), 97 D05 (out), 98 D06 (out), 99 D07 (out), 102 ISOBE* (in), 103 SWDEN* (in), 104 DENO* (out), 105 LWDENIN* (in), 107 UWDENIN* (in), 108 DDIR (in), 109 LEDO (out), 111 LEDI (out), 112 LADI (out), 113 LADO (in), 114 ABEN* (in), 115 CLK64M (in), 116 SCON*/D64 (out), 117 IRESET* (in), 118 LBG* (io), 123 LBR* (in), 124 SIZ0 (in), 125 SIZ1 (in), 126 RMC* (io), 127 FC1 (in), 128 FC2 (in), 129 R/W* (in), 130 HALT* (io), 131 RESET* (in), 132 LBERR* (io), 133 DSACK0* (out), 134 DSACK1* (out), 135 DS* (io), 136 PAS* (in), 137 CS* (in), 138 LA0 (io), 139 LA1 (io), 142 LA2 (io), 143 LA3 (io), 144 LA4 (io), 145 LA5 (io), 146 LA6 (io), 147 LA7 (io), 148 LD0 (io), 149 LD1 (io), 150 LD2 (io), 151 LD3 (io), 152 LD4 (io), 153 LD5 (io), 154 LD6 (io), 155 LD7 (io), 156 DEDLK* (io), 157 BLT* (in)
part B pins: 1 GND (power), 2 GND (power), 6 VCC (power), 20 GND (power), 26 GND (power), 30 VCC (power), 34 GND (power), 39 GND (power), 40 GND (power), 41 VCC (power), 42 VCC (power), 46 VCC (power), 55 GND (power), 60 GND (power), 61 VCC (power), 70 VSS (power), 78 GND (power), 79 VCC (power), 80 VCC (power), 81 GND (power), 82 GND (power), 89 GND (power), 95 VCC (power), 100 GND (power), 101 VCC (power), 106 GND (power), 110 VCC (power), 119 GND (power), 120 GND (power), 121 VCC (power), 122 VCC (power), 140 VCC (power), 141 GND (power), 158 GND (power), 159 VCC (power), 160 VCC (power)

## VIC068A-AC
designator U?
VMEbus Interface Controller; Published: 11-Dec-2002; LatestRevisionDate: 13-Apr-2006; LatestRevisionNote: IPC-7351 Footprint Added.; DatasheetVersion: 23-Jul-1997; PackageVersion: Jul-1997; PackageReference: A144; Publisher: Altium Limited; PackageDescription: 144-Pin Thin Quad Flat Pack 0.5 mm Pitch; ComponentLink1Description: Manufacturer Link; ComponentLink1URL: http://www.cypress.com/
footprint A144_N (Thin QFP, 144-Leads, Body 20x20mm, Pitch 0.5mm, IPC Medium Density)
footprint A144_L (Thin QFP, 144-Leads, Body 20x20mm, Pitch 0.5mm, IPC High Density)
footprint A144_M (Thin QFP, 144-Leads, Body 20x20mm, Pitch 0.5mm, IPC Low Density)
3D model VIC068A-A144 (144-Pin Thin Quad Flat Pack 0.5 mm Pitch)
part A pins: 1 IPL0* (io), 2 IPL1* (io), 3 IPL2* (io), 5 LAEN (out), 6 LIAKO* (out), 7 LIRQ1* (io), 8 LIRQ2* (io), 9 LIRQ3* (io), 10 LIRQ4* (io), 11 LIRQ5* (io), 12 LIRQ6* (io), 13 LIRQ7* (io), 14 ASIZ1* (out), 15 ASIZ0* (out), 16 ICFSEL* (out), 17 SLSEL1* (out), 19 SLSEL0* (out), 20 WORD* (io), 21 FCIACK* (out), 22 MWB* (out), 23 A1 (io), 25 A2 (io), 26 A3 (io), 27 A4 (io), 29 A5 (io), 30 A6 (io), 31 A7 (io), 33 IRQ1* (io), 34 IRQ2* (io), 35 IRQ3* (io), 36 IRQ4* (io), 37 IRQ5* (io), 38 IRQ6* (io), 39 IRQ7* (io), 41 SYSFAIL* (io), 42 ACFAIL* (io), 43 SYSRESET* (in), 44 IACKOUT* (out), 45 IACKIN* (in), 46 IACK* (in), 47 DTACK* (io), 48 AS* (in), 50 AM0 (in), 51 AM1 (in), 52 AM2 (in), 53 AM3 (in), 56 AM4 (in), 57 AM5 (in), 58 LWORD* (out), 59 WRITE* (in), 60 BERR* (io), 61 DS0* (io), 62 DS1* (io), 63 BR0* (io), 65 BR1* (io), 66 BR2* (io), 67 BR3* (io), 68 BCLR* (io), 69 BBSY* (io), 70 BGIN0* (io), 71 BGIN1* (io), 73 BGIN2* (io), 74 BGIN3* (io), 75 SYSCLK (in), 76 BGOUT0* (io), 77 BGOUT1* (io), 78 BGOUT2* (io), 80 BGOUT3* (io), 81 D00 (out), 82 D01 (out), 83 D02 (out), 84 D03 (out), 86 D04 (out), 87 D05 (out), 88 D06 (out), 89 D07 (out), 92 ISOBE* (in), 93 SWDEN* (in), 94 DENO* (out), 95 LWDENIN* (in), 97 UWDENIN* (in), 98 DDIR (in), 99 LEDO (out), 101 LEDI (out), 102 LADI (out), 103 LADO (in), 104 ABEN* (in), 105 CLK64M (in), 106 SCON*, 107 IRESET* (in), 108 LBG* (io), 109 LBR* (in), 110 SIZ0 (in), 111 SIZ1 (in), 112 RMC* (io), 113 FC1 (in), 114 FC2 (in), 115 R/W* (in), 116 HALT* (io), 117 RESET* (in), 118 LBERR* (io), 119 DSACK0* (out), 120 DSACK1* (out), 121 DS* (io), 122 PAS* (in), 123 CS* (in), 124 LA0 (io), 125 LA1 (io), 128 LA2 (io), 129 LA3 (io), 130 LA4 (io), 131 LA5 (io), 132 LA6 (io), 133 LA7 (io), 134 LD0 (io), 135 LD1 (io), 136 LD2 (io), 137 LD3 (io), 138 LD4 (io), 139 LD5 (io), 140 LD6 (io), 141 LD7 (io), 142 DEDLK* (io), 143 BLT* (in)
part B pins: 4 VCC (power), 18 GND (power), 24 GND (power), 28 VCC (power), 32 GND (power), 40 VCC (power), 49 GND (power), 54 GND (power), 55 VCC (power), 64 VSS (power), 72 GND (power), 79 GND (power), 85 VCC (power), 90 GND (power), 91 VCC (power), 96 GND (power), 100 VCC (power), 126 VCC (power), 127 GND (power), 144 GND (power)

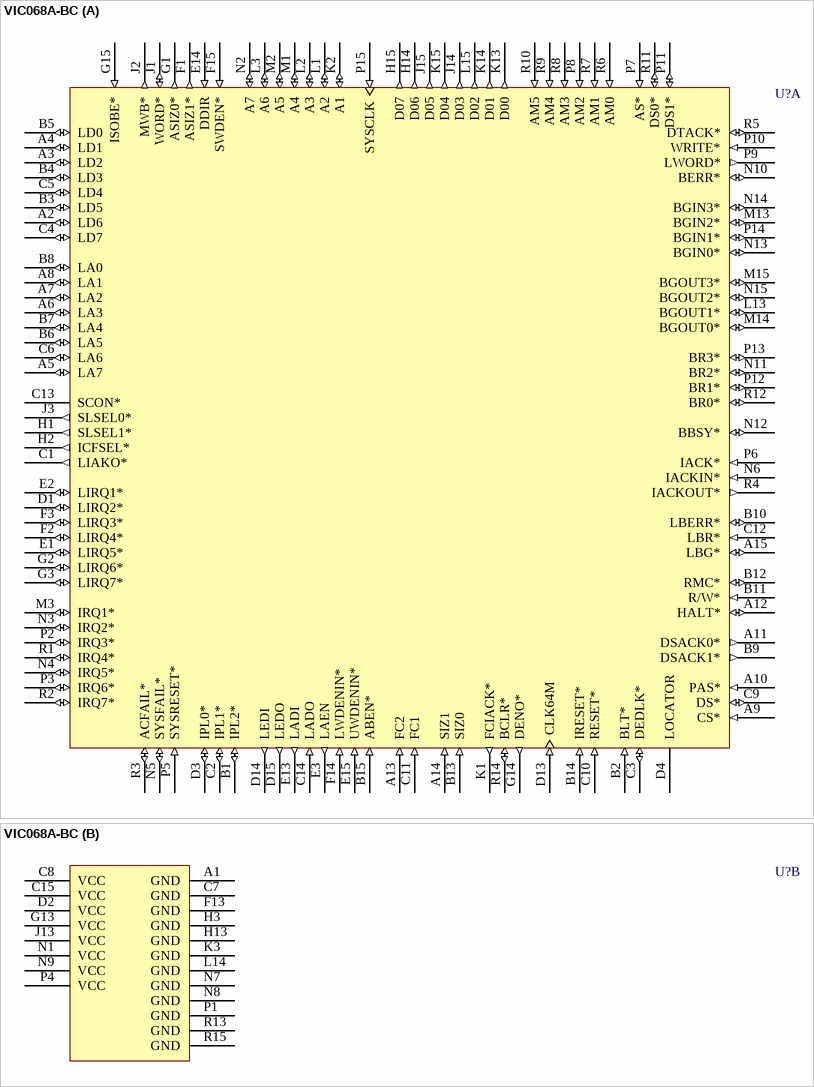
[diagram p14: symbol VIC068A-BC]

## VIC068A-BC
designator U?
VMEbus Interface Controller; Published: 11-Dec-2002; LatestRevisionDate: 04-Mar-2005; LatestRevisionNote: Stylized 3D Model Added.; DatasheetVersion: 23-Jul-1997; PackageVersion: Jul-1997; PackageReference: B144; Publisher: Altium Limited; PackageDescription: 145-Pin Pin Grid Array 2.54 mm Pitch; ComponentLink1Description: Manufacturer Link; ComponentLink1URL: http://www.cypress.com/
footprint B144 (PGA, 145-Leads, Body 38.8x38.8mm, Pitch 2.54mm)
3D model VIC068A-B144 (145-Pin Pin Grid Array 2.54 mm Pitch)
part A pins: A2 LD6 (io), A3 LD2 (io), A4 LD1 (io), A5 LA7 (io), A6 LA3 (io), A7 LA2 (io), A8 LA1 (io), A9 CS* (in), A10 PAS* (in), A11 DSACK0* (out), A12 HALT* (io), A13 FC2 (in), A14 SIZ1 (in), A15 LBG* (io), B1 IPL2* (io), B2 BLT* (in), B3 LD5 (io), B4 LD3 (io), B5 LD0 (io), B6 LA5 (io), B7 LA4 (io), B8 LA0 (io), B9 DSACK1* (out), B10 LBERR* (io), B11 R/W* (in), B12 RMC* (io), B13 SIZ0 (in), B14 IRESET* (in), B15 ABEN* (in), C1 LIAKO* (out), C2 IPL1* (io), C3 DEDLK* (io), C4 LD7 (io), C5 LD4 (io), C6 LA6 (io), C9 DS* (io), C10 RESET* (in), C11 FC1 (in), C12 LBR* (in), C13 SCON*, C14 LADO (in), D1 LIRQ2* (io), D3 IPL0* (io), D4 LOCATOR, D13 CLK64M (in), D14 LEDI (out), D15 LEDO (out), E1 LIRQ5* (io), E2 LIRQ1* (io), E3 LAEN (out), E13 LADI (out), E14 DDIR (in), E15 UWDENIN* (in), F1 ASIZ1* (out), F2 LIRQ4* (io), F3 LIRQ3* (io), F14 LWDENIN* (in), F15 SWDEN* (in), G1 ASIZ0* (out), G2 LIRQ6* (io), G3 LIRQ7* (io), G14 DENO* (out), G15 ISOBE* (in), H1 SLSEL1* (out), H2 ICFSEL* (out), H14 D06 (out), H15 D07 (out), J1 WORD* (io), J2 MWB* (out), J3 SLSEL0* (out), J14 D03 (out), J15 D05 (out), K1 FCIACK* (out), K2 A1 (io), K13 D00 (out), K14 D01 (out), K15 D04 (out), L1 A2 (io), L2 A3 (io), L3 A6 (io), L13 BGOUT1* (io), L15 D02 (out), M1 A4 (io), M2 A5 (io), M3 IRQ1* (io), M13 BGIN2* (io), M14 BGOUT0* (io), M15 BGOUT3* (io), N2 A7 (io), N3 IRQ2* (io), N4 IRQ5* (io), N5 SYSFAIL* (io), N6 IACKIN* (in), N10 BERR* (io), N11 BR2* (io), N12 BBSY* (io), N13 BGIN0* (io), N14 BGIN3* (io), N15 BGOUT2* (io), P2 IRQ3* (io), P3 IRQ6* (io), P5 SYSRESET* (in), P6 IACK* (in), P7 AS* (in), P8 AM2 (in), P9 LWORD* (out), P10 WRITE* (in), P11 DS1* (io), P12 BR1* (io), P13 BR3* (io), P14 BGIN1* (io), P15 SYSCLK (in), R1 IRQ4* (io), R2 IRQ7* (io), R3 ACFAIL* (io), R4 IACKOUT* (out), R5 DTACK* (io), R6 AM0 (in), R7 AM1 (in), R8 AM3 (in), R9 AM4 (in), R10 AM5 (in), R11 DS0* (io), R12 BR0* (io), R14 BCLR* (io)
part B pins: A1 GND (power), C7 GND (power), C8 VCC (power), C15 VCC (power), D2 VCC (power), F13 GND (power), G13 VCC (power), H3 GND (power), H13 GND (power), J13 VCC (power), K3 GND (power), L14 GND (power), N1 VCC (power), N7 GND (power), N8 GND (power), N9 VCC (power), P1 GND (power), P4 VCC (power), R13 GND (power), R15 GND (power)

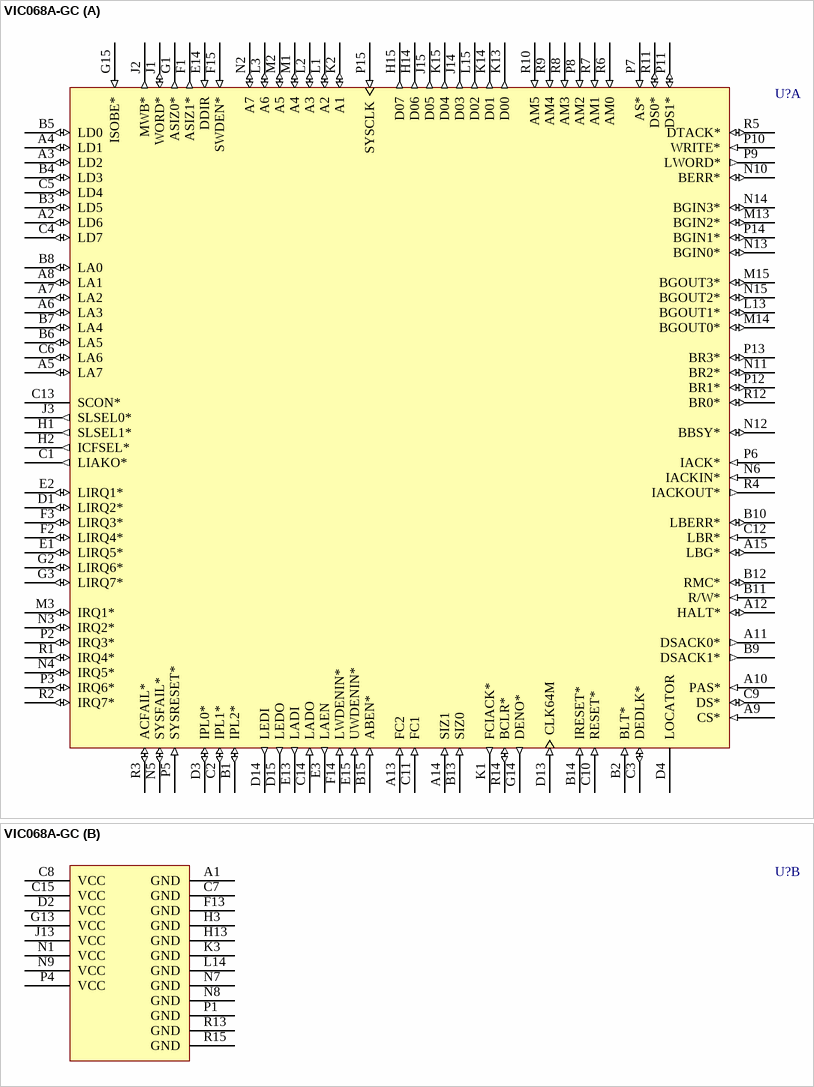
[diagram p15: symbol VIC068A-GC]

## VIC068A-GC
designator U?
VMEbus Interface Controller; Published: 11-Dec-2002; LatestRevisionDate: 04-Mar-2005; LatestRevisionNote: Stylized 3D Model Added.; DatasheetVersion: 23-Jul-1997; PackageVersion: Jul-1997; PackageReference: G145; Publisher: Altium Limited; PackageDescription: 145-Pin Pin Grid Array 2.54 mm Pitch; ComponentLink1Description: Manufacturer Link; ComponentLink1URL: http://www.cypress.com/
footprint G145 (PGA, 145-Leads, Body 40x40mm, Pitch 2.54mm)
3D model VIC068A-G145 (145-Pin Pin Grid Array 2.54 mm Pitch)
part A pins: A2 LD6 (io), A3 LD2 (io), A4 LD1 (io), A5 LA7 (io), A6 LA3 (io), A7 LA2 (io), A8 LA1 (io), A9 CS* (in), A10 PAS* (in), A11 DSACK0* (out), A12 HALT* (io), A13 FC2 (in), A14 SIZ1 (in), A15 LBG* (io), B1 IPL2* (io), B2 BLT* (in), B3 LD5 (io), B4 LD3 (io), B5 LD0 (io), B6 LA5 (io), B7 LA4 (io), B8 LA0 (io), B9 DSACK1* (out), B10 LBERR* (io), B11 R/W* (in), B12 RMC* (io), B13 SIZ0 (in), B14 IRESET* (in), B15 ABEN* (in), C1 LIAKO* (out), C2 IPL1* (io), C3 DEDLK* (io), C4 LD7 (io), C5 LD4 (io), C6 LA6 (io), C9 DS* (io), C10 RESET* (in), C11 FC1 (in), C12 LBR* (in), C13 SCON*, C14 LADO (in), D1 LIRQ2* (io), D3 IPL0* (io), D4 LOCATOR, D13 CLK64M (in), D14 LEDI (out), D15 LEDO (out), E1 LIRQ5* (io), E2 LIRQ1* (io), E3 LAEN (out), E13 LADI (out), E14 DDIR (in), E15 UWDENIN* (in), F1 ASIZ1* (out), F2 LIRQ4* (io), F3 LIRQ3* (io), F14 LWDENIN* (in), F15 SWDEN* (in), G1 ASIZ0* (out), G2 LIRQ6* (io), G3 LIRQ7* (io), G14 DENO* (out), G15 ISOBE* (in), H1 SLSEL1* (out), H2 ICFSEL* (out), H14 D06 (out), H15 D07 (out), J1 WORD* (io), J2 MWB* (out), J3 SLSEL0* (out), J14 D03 (out), J15 D05 (out), K1 FCIACK* (out), K2 A1 (io), K13 D00 (out), K14 D01 (out), K15 D04 (out), L1 A2 (io), L2 A3 (io), L3 A6 (io), L13 BGOUT1* (io), L15 D02 (out), M1 A4 (io), M2 A5 (io), M3 IRQ1* (io), M13 BGIN2* (io), M14 BGOUT0* (io), M15 BGOUT3* (io), N2 A7 (io), N3 IRQ2* (io), N4 IRQ5* (io), N5 SYSFAIL* (io), N6 IACKIN* (in), N10 BERR* (io), N11 BR2* (io), N12 BBSY* (io), N13 BGIN0* (io), N14 BGIN3* (io), N15 BGOUT2* (io), P2 IRQ3* (io), P3 IRQ6* (io), P5 SYSRESET* (in), P6 IACK* (in), P7 AS* (in), P8 AM2 (in), P9 LWORD* (out), P10 WRITE* (in), P11 DS1* (io), P12 BR1* (io), P13 BR3* (io), P14 BGIN1* (io), P15 SYSCLK (in), R1 IRQ4* (io), R2 IRQ7* (io), R3 ACFAIL* (io), R4 IACKOUT* (out), R5 DTACK* (io), R6 AM0 (in), R7 AM1 (in), R8 AM3 (in), R9 AM4 (in), R10 AM5 (in), R11 DS0* (io), R12 BR0* (io), R14 BCLR* (io)
part B pins: A1 GND (power), C7 GND (power), C8 VCC (power), C15 VCC (power), D2 VCC (power), F13 GND (power), G13 VCC (power), H3 GND (power), H13 GND (power), J13 VCC (power), K3 GND (power), L14 GND (power), N1 VCC (power), N7 GND (power), N8 GND (power), N9 VCC (power), P1 GND (power), P4 VCC (power), R13 GND (power), R15 GND (power)

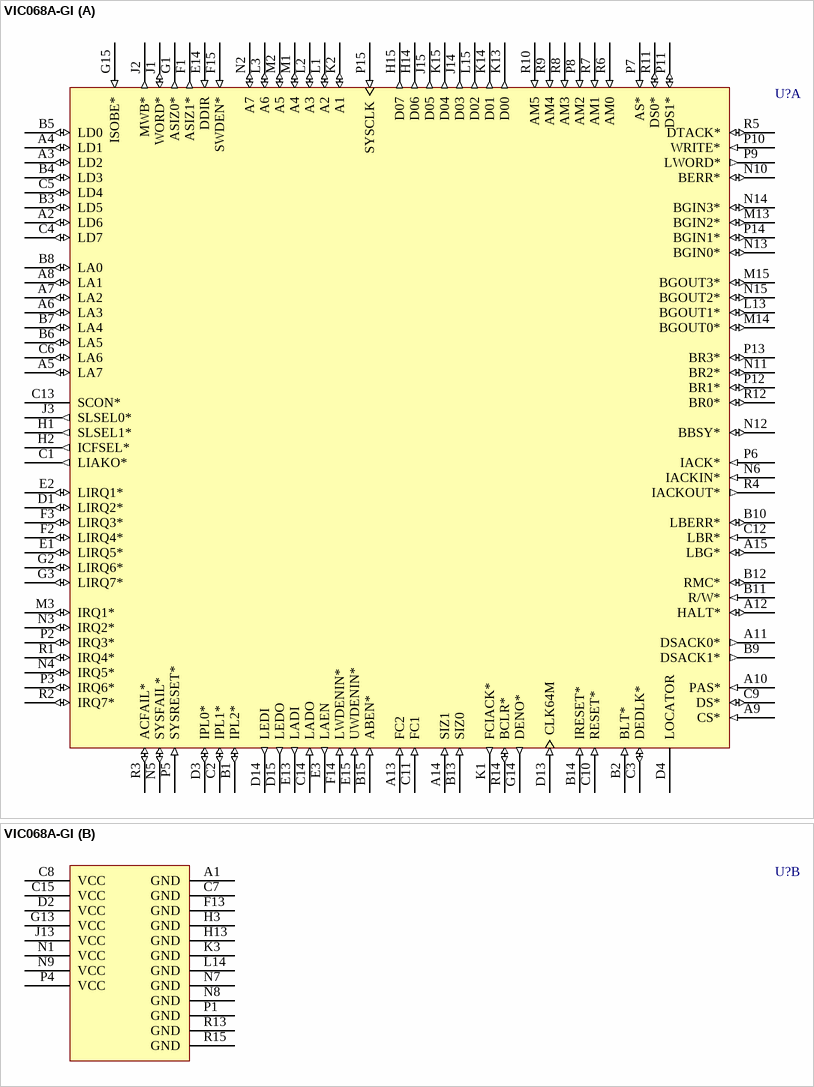
[diagram p16: symbol VIC068A-GI]

## VIC068A-GI
designator U?
VMEbus Interface Controller; Published: 11-Dec-2002; LatestRevisionDate: 04-Mar-2005; LatestRevisionNote: Stylized 3D Model Added.; DatasheetVersion: 23-Jul-1997; PackageVersion: Jul-1997; PackageReference: G145; Publisher: Altium Limited; PackageDescription: 145-Pin Pin Grid Array 2.54 mm Pitch; ComponentLink1Description: Manufacturer Link; ComponentLink1URL: http://www.cypress.com/
footprint G145 (PGA, 145-Leads, Body 40x40mm, Pitch 2.54mm)
3D model VIC068A-G145 (145-Pin Pin Grid Array 2.54 mm Pitch)
part A pins: A2 LD6 (io), A3 LD2 (io), A4 LD1 (io), A5 LA7 (io), A6 LA3 (io), A7 LA2 (io), A8 LA1 (io), A9 CS* (in), A10 PAS* (in), A11 DSACK0* (out), A12 HALT* (io), A13 FC2 (in), A14 SIZ1 (in), A15 LBG* (io), B1 IPL2* (io), B2 BLT* (in), B3 LD5 (io), B4 LD3 (io), B5 LD0 (io), B6 LA5 (io), B7 LA4 (io), B8 LA0 (io), B9 DSACK1* (out), B10 LBERR* (io), B11 R/W* (in), B12 RMC* (io), B13 SIZ0 (in), B14 IRESET* (in), B15 ABEN* (in), C1 LIAKO* (out), C2 IPL1* (io), C3 DEDLK* (io), C4 LD7 (io), C5 LD4 (io), C6 LA6 (io), C9 DS* (io), C10 RESET* (in), C11 FC1 (in), C12 LBR* (in), C13 SCON*, C14 LADO (in), D1 LIRQ2* (io), D3 IPL0* (io), D4 LOCATOR, D13 CLK64M (in), D14 LEDI (out), D15 LEDO (out), E1 LIRQ5* (io), E2 LIRQ1* (io), E3 LAEN (out), E13 LADI (out), E14 DDIR (in), E15 UWDENIN* (in), F1 ASIZ1* (out), F2 LIRQ4* (io), F3 LIRQ3* (io), F14 LWDENIN* (in), F15 SWDEN* (in), G1 ASIZ0* (out), G2 LIRQ6* (io), G3 LIRQ7* (io), G14 DENO* (out), G15 ISOBE* (in), H1 SLSEL1* (out), H2 ICFSEL* (out), H14 D06 (out), H15 D07 (out), J1 WORD* (io), J2 MWB* (out), J3 SLSEL0* (out), J14 D03 (out), J15 D05 (out), K1 FCIACK* (out), K2 A1 (io), K13 D00 (out), K14 D01 (out), K15 D04 (out), L1 A2 (io), L2 A3 (io), L3 A6 (io), L13 BGOUT1* (io), L15 D02 (out), M1 A4 (io), M2 A5 (io), M3 IRQ1* (io), M13 BGIN2* (io), M14 BGOUT0* (io), M15 BGOUT3* (io), N2 A7 (io), N3 IRQ2* (io), N4 IRQ5* (io), N5 SYSFAIL* (io), N6 IACKIN* (in), N10 BERR* (io), N11 BR2* (io), N12 BBSY* (io), N13 BGIN0* (io), N14 BGIN3* (io), N15 BGOUT2* (io), P2 IRQ3* (io), P3 IRQ6* (io), P5 SYSRESET* (in), P6 IACK* (in), P7 AS* (in), P8 AM2 (in), P9 LWORD* (out), P10 WRITE* (in), P11 DS1* (io), P12 BR1* (io), P13 BR3* (io), P14 BGIN1* (io), P15 SYSCLK (in), R1 IRQ4* (io), R2 IRQ7* (io), R3 ACFAIL* (io), R4 IACKOUT* (out), R5 DTACK* (io), R6 AM0 (in), R7 AM1 (in), R8 AM3 (in), R9 AM4 (in), R10 AM5 (in), R11 DS0* (io), R12 BR0* (io), R14 BCLR* (io)
part B pins: A1 GND (power), C7 GND (power), C8 VCC (power), C15 VCC (power), D2 VCC (power), F13 GND (power), G13 VCC (power), H3 GND (power), H13 GND (power), J13 VCC (power), K3 GND (power), L14 GND (power), N1 VCC (power), N7 GND (power), N8 GND (power), N9 VCC (power), P1 GND (power), P4 VCC (power), R13 GND (power), R15 GND (power)

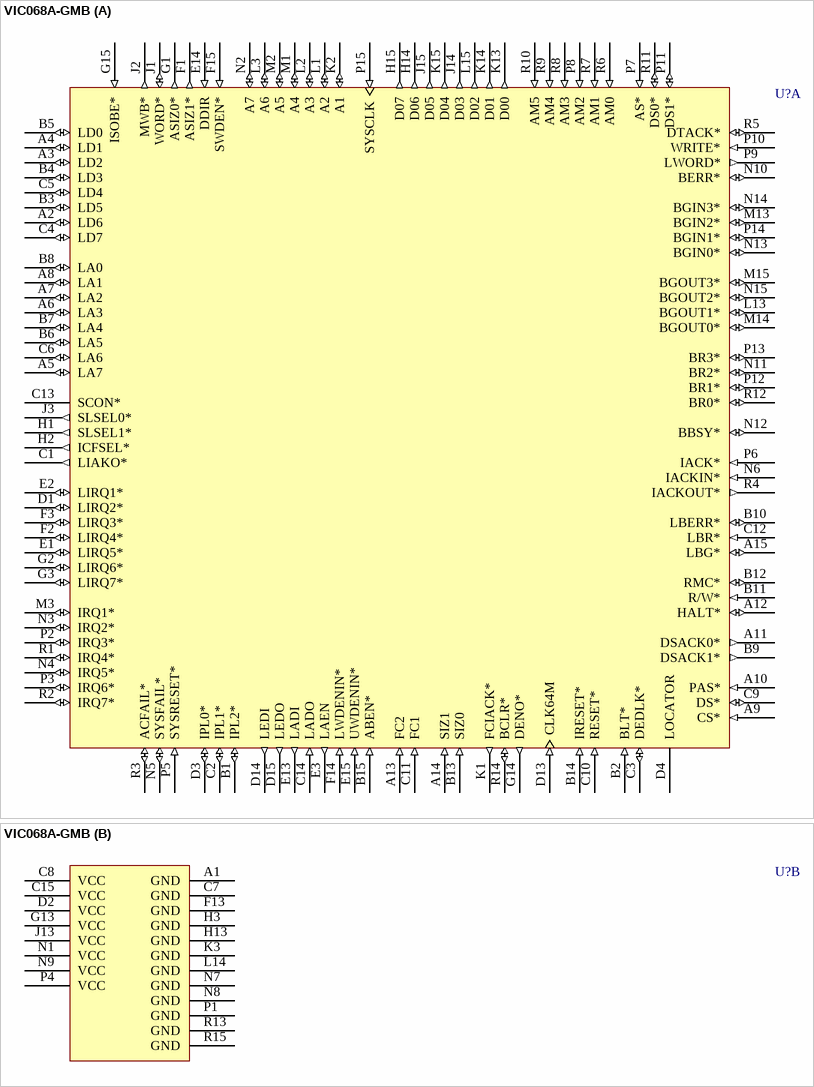
[diagram p17: symbol VIC068A-GMB]

## VIC068A-GMB
designator U?
VMEbus Interface Controller; Published: 11-Dec-2002; LatestRevisionDate: 04-Mar-2005; LatestRevisionNote: Stylized 3D Model Added.; DatasheetVersion: 23-Jul-1997; PackageVersion: Jul-1997; PackageReference: G145; Publisher: Altium Limited; PackageDescription: 145-Pin Pin Grid Array 2.54 mm Pitch; ComponentLink1Description: Manufacturer Link; ComponentLink1URL: http://www.cypress.com/
footprint G145 (PGA, 145-Leads, Body 40x40mm, Pitch 2.54mm)
3D model VIC068A-G145 (145-Pin Pin Grid Array 2.54 mm Pitch)
part A pins: A2 LD6 (io), A3 LD2 (io), A4 LD1 (io), A5 LA7 (io), A6 LA3 (io), A7 LA2 (io), A8 LA1 (io), A9 CS* (in), A10 PAS* (in), A11 DSACK0* (out), A12 HALT* (io), A13 FC2 (in), A14 SIZ1 (in), A15 LBG* (io), B1 IPL2* (io), B2 BLT* (in), B3 LD5 (io), B4 LD3 (io), B5 LD0 (io), B6 LA5 (io), B7 LA4 (io), B8 LA0 (io), B9 DSACK1* (out), B10 LBERR* (io), B11 R/W* (in), B12 RMC* (io), B13 SIZ0 (in), B14 IRESET* (in), B15 ABEN* (in), C1 LIAKO* (out), C2 IPL1* (io), C3 DEDLK* (io), C4 LD7 (io), C5 LD4 (io), C6 LA6 (io), C9 DS* (io), C10 RESET* (in), C11 FC1 (in), C12 LBR* (in), C13 SCON*, C14 LADO (in), D1 LIRQ2* (io), D3 IPL0* (io), D4 LOCATOR, D13 CLK64M (in), D14 LEDI (out), D15 LEDO (out), E1 LIRQ5* (io), E2 LIRQ1* (io), E3 LAEN (out), E13 LADI (out), E14 DDIR (in), E15 UWDENIN* (in), F1 ASIZ1* (out), F2 LIRQ4* (io), F3 LIRQ3* (io), F14 LWDENIN* (in), F15 SWDEN* (in), G1 ASIZ0* (out), G2 LIRQ6* (io), G3 LIRQ7* (io), G14 DENO* (out), G15 ISOBE* (in), H1 SLSEL1* (out), H2 ICFSEL* (out), H14 D06 (out), H15 D07 (out), J1 WORD* (io), J2 MWB* (out), J3 SLSEL0* (out), J14 D03 (out), J15 D05 (out), K1 FCIACK* (out), K2 A1 (io), K13 D00 (out), K14 D01 (out), K15 D04 (out), L1 A2 (io), L2 A3 (io), L3 A6 (io), L13 BGOUT1* (io), L15 D02 (out), M1 A4 (io), M2 A5 (io), M3 IRQ1* (io), M13 BGIN2* (io), M14 BGOUT0* (io), M15 BGOUT3* (io), N2 A7 (io), N3 IRQ2* (io), N4 IRQ5* (io), N5 SYSFAIL* (io), N6 IACKIN* (in), N10 BERR* (io), N11 BR2* (io), N12 BBSY* (io), N13 BGIN0* (io), N14 BGIN3* (io), N15 BGOUT2* (io), P2 IRQ3* (io), P3 IRQ6* (io), P5 SYSRESET* (in), P6 IACK* (in), P7 AS* (in), P8 AM2 (in), P9 LWORD* (out), P10 WRITE* (in), P11 DS1* (io), P12 BR1* (io), P13 BR3* (io), P14 BGIN1* (io), P15 SYSCLK (in), R1 IRQ4* (io), R2 IRQ7* (io), R3 ACFAIL* (io), R4 IACKOUT* (out), R5 DTACK* (io), R6 AM0 (in), R7 AM1 (in), R8 AM3 (in), R9 AM4 (in), R10 AM5 (in), R11 DS0* (io), R12 BR0* (io), R14 BCLR* (io)
part B pins: A1 GND (power), C7 GND (power), C8 VCC (power), C15 VCC (power), D2 VCC (power), F13 GND (power), G13 VCC (power), H3 GND (power), H13 GND (power), J13 VCC (power), K3 GND (power), L14 GND (power), N1 VCC (power), N7 GND (power), N8 GND (power), N9 VCC (power), P1 GND (power), P4 VCC (power), R13 GND (power), R15 GND (power)

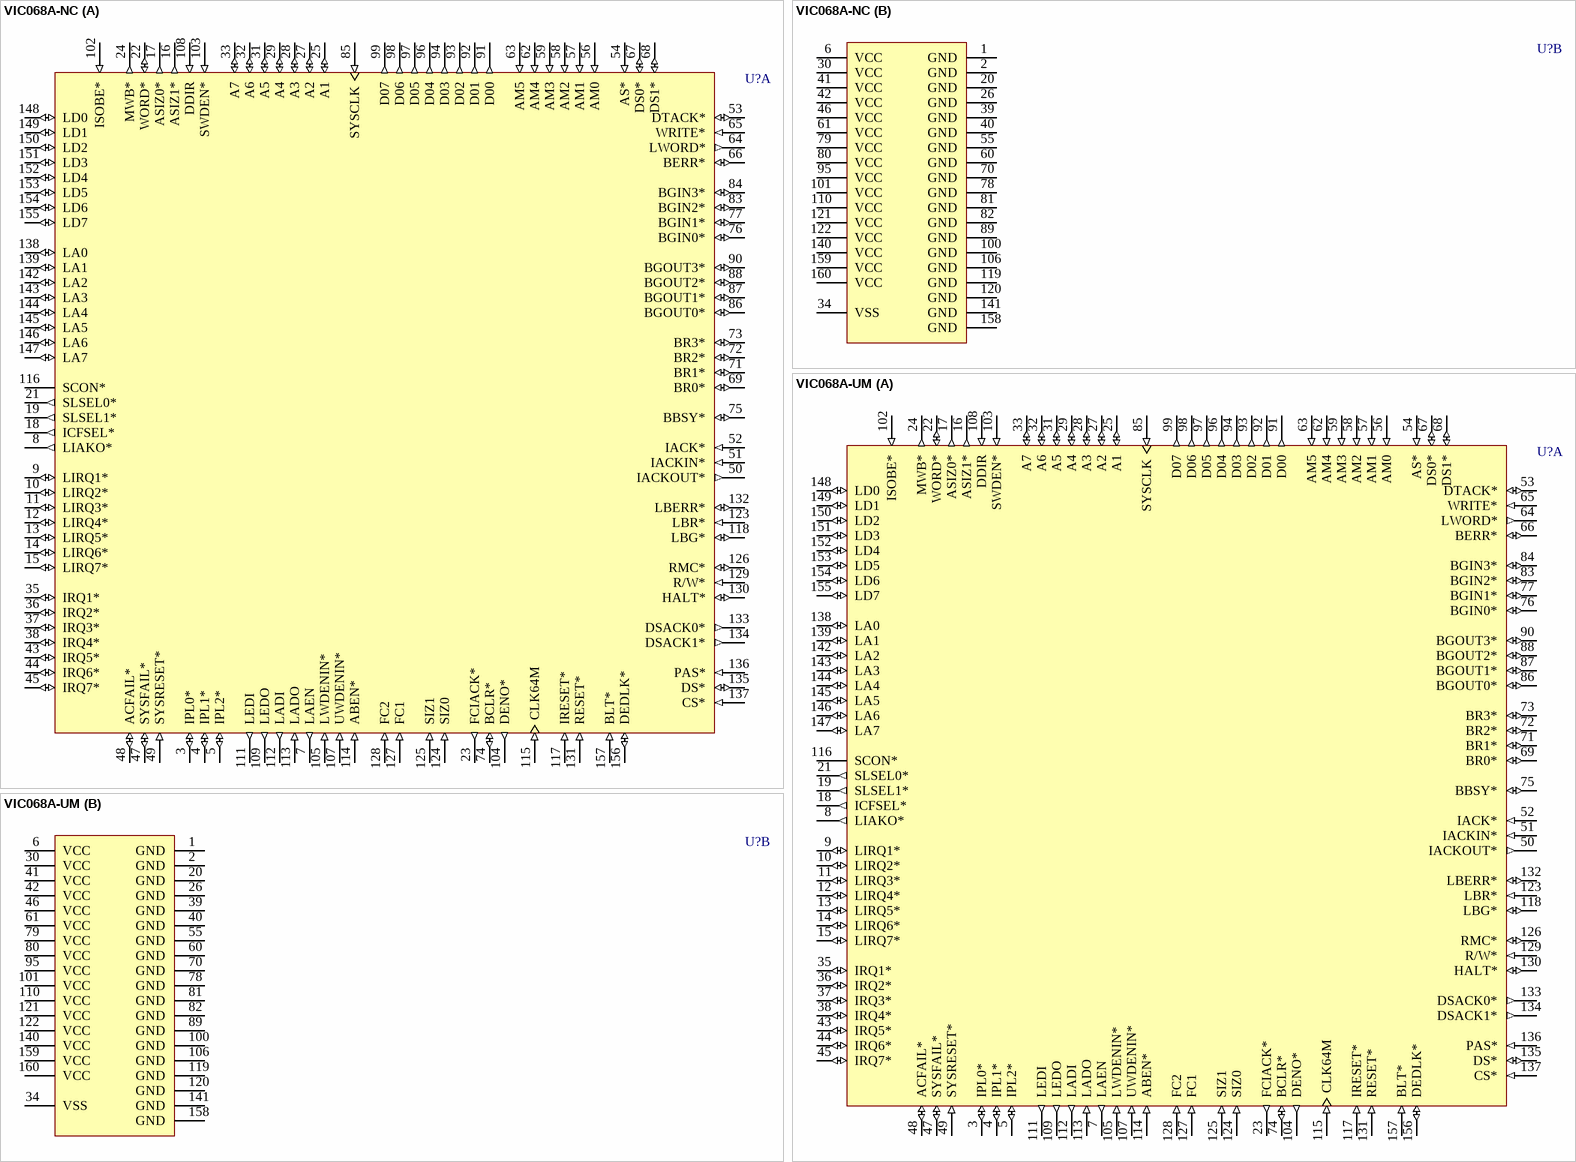
[diagram p18: symbols VIC068A-NC to VIC068A-UM]

## VIC068A-NC
designator U?
VMEbus Interface Controller; Published: 11-Dec-2002; LatestRevisionDate: 13-Apr-2006; LatestRevisionNote: IPC-7351 Footprint Added.; DatasheetVersion: 23-Jul-1997; PackageVersion: Mar-2001; PackageReference: N160; Publisher: Altium Limited; PackageDescription: 160-Pin Plastic Quad Flat Pack 0.65 mm Pitch; Code_IPC: QFP65P3120X3120-160; ComponentLink1Description: Manufacturer Link; ComponentLink1URL: http://www.cypress.com/
footprint N160_N (QFP, 160-Leads, Body 28 x 28mm, Pitch 0.65mm, IPC Medium Density)
footprint N160_L (QFP, 160-Leads, Body 28 x 28mm, Pitch 0.65mm, IPC High Density)
footprint N160_M (QFP, 160-Leads, Body 28 x 28mm, Pitch 0.65mm, IPC Low Density)
3D model VIC068A-N160 (160-Pin Plastic Quad Flat Pack 0.65 mm Pitch)
part A pins: 3 IPL0* (io), 4 IPL1* (io), 5 IPL2* (io), 7 LAEN (out), 8 LIAKO* (out), 9 LIRQ1* (io), 10 LIRQ2* (io), 11 LIRQ3* (io), 12 LIRQ4* (io), 13 LIRQ5* (io), 14 LIRQ6* (io), 15 LIRQ7* (io), 16 ASIZ1* (out), 17 ASIZ0* (out), 18 ICFSEL* (out), 19 SLSEL1* (out), 21 SLSEL0* (out), 22 WORD* (io), 23 FCIACK* (out), 24 MWB* (out), 25 A1 (io), 27 A2 (io), 28 A3 (io), 29 A4 (io), 31 A5 (io), 32 A6 (io), 33 A7 (io), 35 IRQ1* (io), 36 IRQ2* (io), 37 IRQ3* (io), 38 IRQ4* (io), 43 IRQ5* (io), 44 IRQ6* (io), 45 IRQ7* (io), 47 SYSFAIL* (io), 48 ACFAIL* (io), 49 SYSRESET* (in), 50 IACKOUT* (out), 51 IACKIN* (in), 52 IACK* (in), 53 DTACK* (io), 54 AS* (in), 56 AM0 (in), 57 AM1 (in), 58 AM2 (in), 59 AM3 (in), 62 AM4 (in), 63 AM5 (in), 64 LWORD* (out), 65 WRITE* (in), 66 BERR* (io), 67 DS0* (io), 68 DS1* (io), 69 BR0* (io), 71 BR1* (io), 72 BR2* (io), 73 BR3* (io), 74 BCLR* (io), 75 BBSY* (io), 76 BGIN0* (io), 77 BGIN1* (io), 83 BGIN2* (io), 84 BGIN3* (io), 85 SYSCLK (in), 86 BGOUT0* (io), 87 BGOUT1* (io), 88 BGOUT2* (io), 90 BGOUT3* (io), 91 D00 (out), 92 D01 (out), 93 D02 (out), 94 D03 (out), 96 D04 (out), 97 D05 (out), 98 D06 (out), 99 D07 (out), 102 ISOBE* (in), 103 SWDEN* (in), 104 DENO* (out), 105 LWDENIN* (in), 107 UWDENIN* (in), 108 DDIR (in), 109 LEDO (out), 111 LEDI (out), 112 LADI (out), 113 LADO (in), 114 ABEN* (in), 115 CLK64M (in), 116 SCON*, 117 IRESET* (in), 118 LBG* (io), 123 LBR* (in), 124 SIZ0 (in), 125 SIZ1 (in), 126 RMC* (io), 127 FC1 (in), 128 FC2 (in), 129 R/W* (in), 130 HALT* (io), 131 RESET* (in), 132 LBERR* (io), 133 DSACK0* (out), 134 DSACK1* (out), 135 DS* (io), 136 PAS* (in), 137 CS* (in), 138 LA0 (io), 139 LA1 (io), 142 LA2 (io), 143 LA3 (io), 144 LA4 (io), 145 LA5 (io), 146 LA6 (io), 147 LA7 (io), 148 LD0 (io), 149 LD1 (io), 150 LD2 (io), 151 LD3 (io), 152 LD4 (io), 153 LD5 (io), 154 LD6 (io), 155 LD7 (io), 156 DEDLK* (io), 157 BLT* (in)
part B pins: 1 GND (power), 2 GND (power), 6 VCC (power), 20 GND (power), 26 GND (power), 30 VCC (power), 34 VSS (power), 39 GND (power), 40 GND (power), 41 VCC (power), 42 VCC (power), 46 VCC (power), 55 GND (power), 60 GND (power), 61 VCC (power), 70 GND (power), 78 GND (power), 79 VCC (power), 80 VCC (power), 81 GND (power), 82 GND (power), 89 GND (power), 95 VCC (power), 100 GND (power), 101 VCC (power), 106 GND (power), 110 VCC (power), 119 GND (power), 120 GND (power), 121 VCC (power), 122 VCC (power), 140 VCC (power), 141 GND (power), 158 GND (power), 159 VCC (power), 160 VCC (power)

## VIC068A-UM
designator U?
VMEbus Interface Controller; Published: 11-Dec-2002; LatestRevisionDate: 13-Apr-2006; LatestRevisionNote: IPC-7351 Footprint Added.; DatasheetVersion: 23-Jul-1997; PackageVersion: Dec-2000; PackageReference: U162; Publisher: Altium Limited; PackageDescription: 160-Pin Ceramic Cavity Up Quad Flat Pack 0.65 mm Pitch; ComponentLink1Description: Manufacturer Link; ComponentLink1URL: http://www.cypress.com/
footprint U162_N (QFP, 160-Leads, Body 28 x 28mm, Pitch 0.65mm, IPC Medium Density)
footprint U162_L (QFP, 160-Leads, Body 28 x 28mm, Pitch 0.65mm, IPC High Density)
footprint U162_M (QFP, 160-Leads, Body 28 x 28mm, Pitch 0.65mm, IPC Low Density)
3D model VIC068A-U162 (160-Pin Ceramic Cavity Up Quad Flat Pack 0.65 mm Pitch)
part A pins: 3 IPL0* (io), 4 IPL1* (io), 5 IPL2* (io), 7 LAEN (out), 8 LIAKO* (out), 9 LIRQ1* (io), 10 LIRQ2* (io), 11 LIRQ3* (io), 12 LIRQ4* (io), 13 LIRQ5* (io), 14 LIRQ6* (io), 15 LIRQ7* (io), 16 ASIZ1* (out), 17 ASIZ0* (out), 18 ICFSEL* (out), 19 SLSEL1* (out), 21 SLSEL0* (out), 22 WORD* (io), 23 FCIACK* (out), 24 MWB* (out), 25 A1 (io), 27 A2 (io), 28 A3 (io), 29 A4 (io), 31 A5 (io), 32 A6 (io), 33 A7 (io), 35 IRQ1* (io), 36 IRQ2* (io), 37 IRQ3* (io), 38 IRQ4* (io), 43 IRQ5* (io), 44 IRQ6* (io), 45 IRQ7* (io), 47 SYSFAIL* (io), 48 ACFAIL* (io), 49 SYSRESET* (in), 50 IACKOUT* (out), 51 IACKIN* (in), 52 IACK* (in), 53 DTACK* (io), 54 AS* (in), 56 AM0 (in), 57 AM1 (in), 58 AM2 (in), 59 AM3 (in), 62 AM4 (in), 63 AM5 (in), 64 LWORD* (out), 65 WRITE* (in), 66 BERR* (io), 67 DS0* (io), 68 DS1* (io), 69 BR0* (io), 71 BR1* (io), 72 BR2* (io), 73 BR3* (io), 74 BCLR* (io), 75 BBSY* (io), 76 BGIN0* (io), 77 BGIN1* (io), 83 BGIN2* (io), 84 BGIN3* (io), 85 SYSCLK (in), 86 BGOUT0* (io), 87 BGOUT1* (io), 88 BGOUT2* (io), 90 BGOUT3* (io), 91 D00 (out), 92 D01 (out), 93 D02 (out), 94 D03 (out), 96 D04 (out), 97 D05 (out), 98 D06 (out), 99 D07 (out), 102 ISOBE* (in), 103 SWDEN* (in), 104 DENO* (out), 105 LWDENIN* (in), 107 UWDENIN* (in), 108 DDIR (in), 109 LEDO (out), 111 LEDI (out), 112 LADI (out), 113 LADO (in), 114 ABEN* (in), 115 CLK64M (in), 116 SCON*, 117 IRESET* (in), 118 LBG* (io), 123 LBR* (in), 124 SIZ0 (in), 125 SIZ1 (in), 126 RMC* (io), 127 FC1 (in), 128 FC2 (in), 129 R/W* (in), 130 HALT* (io), 131 RESET* (in), 132 LBERR* (io), 133 DSACK0* (out), 134 DSACK1* (out), 135 DS* (io), 136 PAS* (in), 137 CS* (in), 138 LA0 (io), 139 LA1 (io), 142 LA2 (io), 143 LA3 (io), 144 LA4 (io), 145 LA5 (io), 146 LA6 (io), 147 LA7 (io), 148 LD0 (io), 149 LD1 (io), 150 LD2 (io), 151 LD3 (io), 152 LD4 (io), 153 LD5 (io), 154 LD6 (io), 155 LD7 (io), 156 DEDLK* (io), 157 BLT* (in)
part B pins: 1 GND (power), 2 GND (power), 6 VCC (power), 20 GND (power), 26 GND (power), 30 VCC (power), 34 VSS (power), 39 GND (power), 40 GND (power), 41 VCC (power), 42 VCC (power), 46 VCC (power), 55 GND (power), 60 GND (power), 61 VCC (power), 70 GND (power), 78 GND (power), 79 VCC (power), 80 VCC (power), 81 GND (power), 82 GND (power), 89 GND (power), 95 VCC (power), 100 GND (power), 101 VCC (power), 106 GND (power), 110 VCC (power), 119 GND (power), 120 GND (power), 121 VCC (power), 122 VCC (power), 140 VCC (power), 141 GND (power), 158 GND (power), 159 VCC (power), 160 VCC (power)

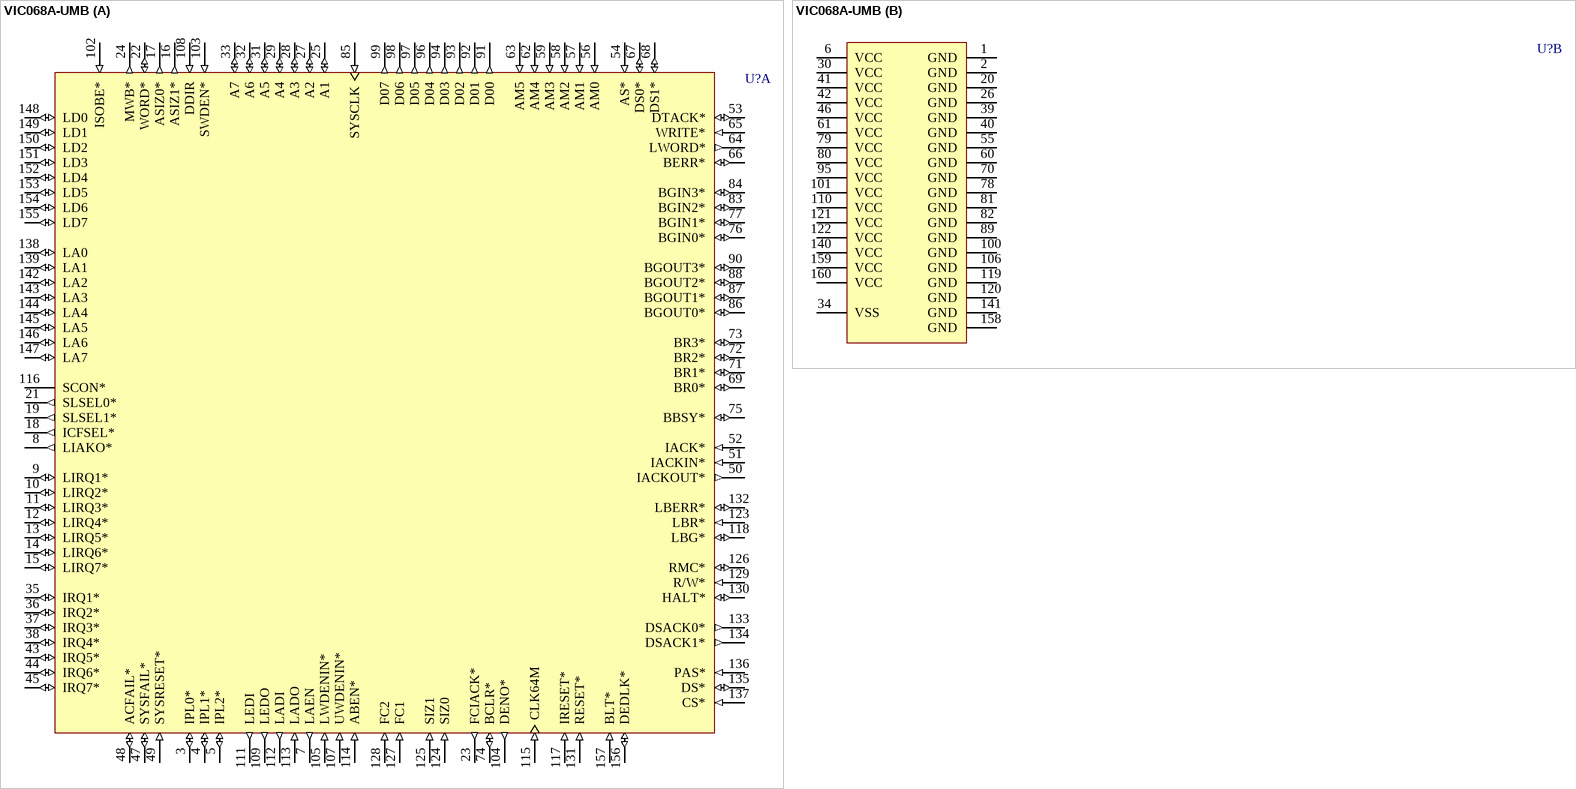
[diagram p19: symbol VIC068A-UMB]